# Altium schematic symbol library AshanSchLib.SchLib: 440 symbols (part 4 of 5)
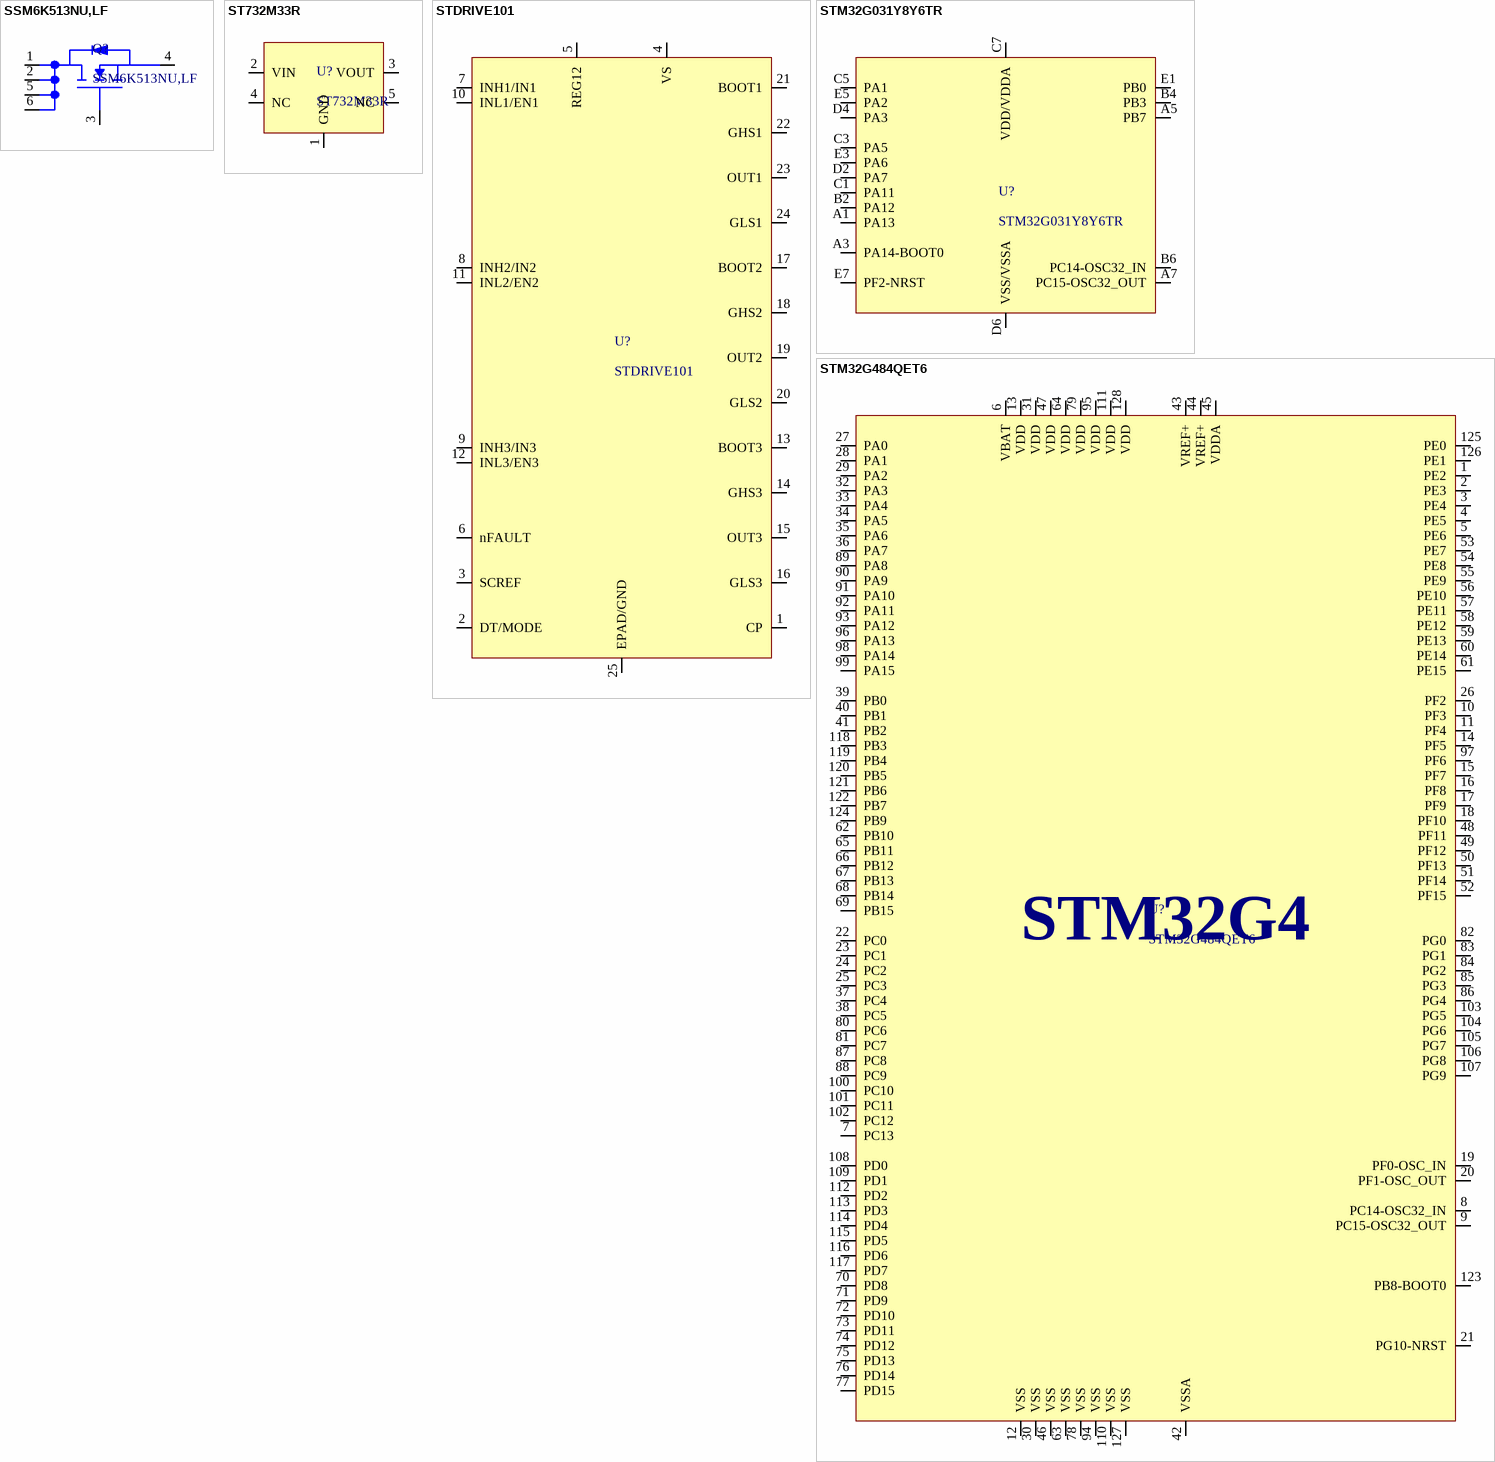
[diagram p32: symbols SSM6K513NU,LF to STM32G484QET6]

## STDRIVE101
designator U?
Gate Driver 3x Half-Bridge; Manufacturer: STMicroelectronics; Manufacturer Part Number: STDRIVE101
footprint VFQFPN24_4X4X1 (QFN, 24-Leads, Body 4,00x4,00mm, Pitch 0,50mm, Thermal Pad 2,50x2,50mm, IPC Medium Density)
pins: 1 CP, 2 DT/MODE, 3 SCREF, 4 VS, 5 REG12, 6 nFAULT, 7 INH1/IN1, 8 INH2/IN2, 9 INH3/IN3, 10 INL1/EN1, 11 INL2/EN2, 12 INL3/EN3, 13 BOOT3, 14 GHS3, 15 OUT3, 16 GLS3, 17 BOOT2, 18 GHS2, 19 OUT2, 20 GLS2, 21 BOOT1, 22 GHS1, 23 OUT1, 24 GLS1, 25 EPAD/GND

## STM32G031Y8Y6TR
designator U?
ARM Microcontrollers - MCU Mainstream Arm Cortex-M0+ MCU 64 Kbytes of Flash 8 Kbytes RAM, 64 MHz CPU STM32; Manufacturer: STMicroelectronics; Manufacturer Part Number: STM32G031Y8Y6TR
footprint WLCSP18
pins: A1 PA13, A3 PA14-BOOT0, A5 PB7, A7 PC15-OSC32_OUT, B2 PA12, B4 PB3, B6 PC14-OSC32_IN, C1 PA11, C3 PA5, C5 PA1, C7 VDD/VDDA (power), D2 PA7, D4 PA3, D6 VSS/VSSA (power), E1 PB0, E3 PA6, E5 PA2, E7 PF2-NRST

## STM32G484QET6
designator U?
STM32G4 Microcontroller LQFP-128 170 MHz 107 I/O; Manufacturer: STMicroelectronics; Manufacturer Part Number: STM32G484QET6
footprint LQFP-128 (CQFP, 128-Leads, Body 16,00x16,00mm, Pitch 0,40mm, IPC Medium Density)
pins: 1 PE2, 2 PE3, 3 PE4, 4 PE5, 5 PE6, 6 VBAT, 7 PC13, 8 PC14-OSC32_IN, 9 PC15-OSC32_OUT, 10 PF3, 11 PF4, 12 VSS, 13 VDD, 14 PF5, 15 PF7, 16 PF8, 17 PF9, 18 PF10, 19 PF0-OSC_IN, 20 PF1-OSC_OUT, 21 PG10-NRST, 22 PC0, 23 PC1, 24 PC2, 25 PC3, 26 PF2, 27 PA0, 28 PA1, 29 PA2, 30 VSS, 31 VDD, 32 PA3, 33 PA4, 34 PA5, 35 PA6, 36 PA7, 37 PC4, 38 PC5, 39 PB0, 40 PB1, 41 PB2, 42 VSSA, 43 VREF+, 44 VREF+, 45 VDDA, 46 VSS, 47 VDD, 48 PF11, 49 PF12, 50 PF13, 51 PF14, 52 PF15, 53 PE7, 54 PE8, 55 PE9, 56 PE10, 57 PE11, 58 PE12, 59 PE13, 60 PE14, 61 PE15, 62 PB10, 63 VSS, 64 VDD, 65 PB11, 66 PB12, 67 PB13, 68 PB14, 69 PB15, 70 PD8, 71 PD9, 72 PD10, 73 PD11, 74 PD12, 75 PD13, 76 PD14, 77 PD15, 78 VSS, 79 VDD, 80 PC6, 81 PC7, 82 PG0, 83 PG1, 84 PG2, 85 PG3, 86 PG4, 87 PC8, 88 PC9, 89 PA8, 90 PA9, 91 PA10, 92 PA11, 93 PA12, 94 VSS, 95 VDD, 96 PA13, 97 PF6, 98 PA14, 99 PA15, 100 PC10, 101 PC11, 102 PC12, 103 PG5, 104 PG6, 105 PG7, 106 PG8, 107 PG9, 108 PD0, 109 PD1, 110 VSS, 111 VDD, 112 PD2, 113 PD3, 114 PD4, 115 PD5, 116 PD6, 117 PD7, 118 PB3, 119 PB4, 120 PB5, 121 PB6, 122 PB7, 123 PB8-BOOT0, 124 PB9, 125 PE0, 126 PE1, 127 VSS, 128 VDD
text: STM32G4

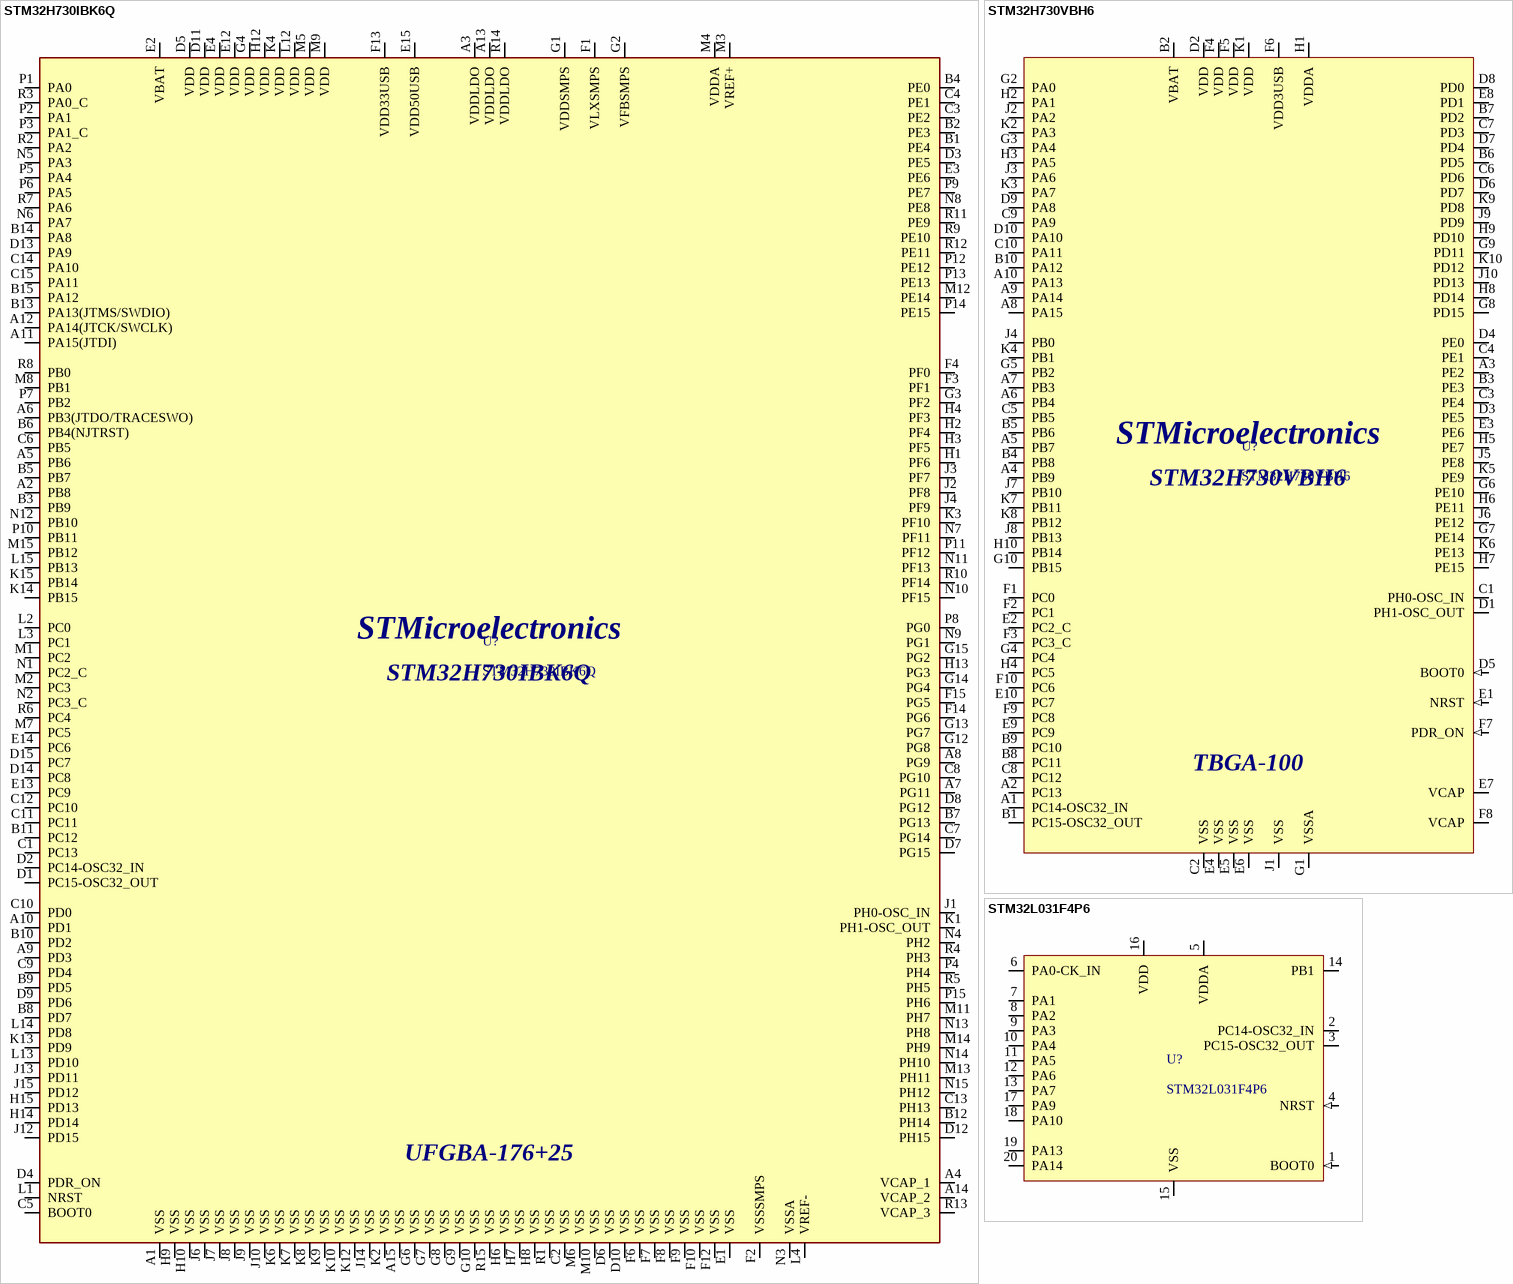
[diagram p21: symbols STM32H730IBK6Q to STM32L031F4P6]

## STM32H730IBK6Q
designator U?
Arm® Cortex®-M7 32b 550 MHz MCU, 128 KB Flash, 564 KB RAM, Ethernet, USB, 3xFD-CAN, Graphics, 2x16b ADCs, crypto/hash, UFBGA-176+25 (10x10); Manufacturer: STMicroelectronics; Manufacturer Part Number: STM32H730IBK6Q
footprint UFBGA176+25
pins: A1 VSS, A2 PB8, A3 VDDLDO, A4 VCAP_1, A5 PB6, A6 PB3(JTDO/TRACESWO), A7 PG11, A8 PG9, A9 PD3, A10 PD1, A11 PA15(JTDI), A12 PA14(JTCK/SWCLK), A13 VDDLDO, A14 VCAP_2, A15 VSS, B1 PE4, B2 PE3, B3 PB9, B4 PE0, B5 PB7, B6 PB4(NJTRST), B7 PG13, B8 PD7, B9 PD5, B10 PD2, B11 PC12, B12 PH14, B13 PA13(JTMS/SWDIO), B14 PA8, B15 PA12, C1 PC13, C2 VSS, C3 PE2, C4 PE1, C5 BOOT0, C6 PB5, C7 PG14, C8 PG10, C9 PD4, C10 PD0, C11 PC11, C12 PC10, C13 PH13, C14 PA10, C15 PA11, D1 PC15-OSC32_OUT, D2 PC14-OSC32_IN, D3 PE5, D4 PDR_ON, D5 VDD, D6 VSS, D7 PG15, D8 PG12, D9 PD6, D10 VSS, D11 VDD, D12 PH15, D13 PA9, D14 PC8, D15 PC7, E1 VSS, E2 VBAT, E3 PE6, E4 VDD, E12 VDD, E13 PC9, E14 PC6, E15 VDD50USB, F1 VLXSMPS, F2 VSSSMPS, F3 PF1, F4 PF0, F6 VSS, F7 VSS, F8 VSS, F9 VSS, F10 VSS, F12 VSS, F13 VDD33USB, F14 PG6, F15 PG5, G1 VDDSMPS, G2 VFBSMPS, G3 PF2, G4 VDD, G6 VSS, G7 VSS, G8 VSS, G9 VSS, G10 VSS, G12 PG8, G13 PG7, G14 PG4, G15 PG2, H1 PF6, H2 PF4, H3 PF5, H4 PF3, H6 VSS, H7 VSS, H8 VSS, H9 VSS, H10 VSS, H12 VDD, H13 PG3, H14 PD14, H15 PD13, J1 PH0-OSC_IN, J2 PF8, J3 PF7, J4 PF9, J6 VSS, J7 VSS, J8 VSS, J9 VSS, J10 VSS, J12 PD15, J13 PD11, J14 VSS, J15 PD12, K1 PH1-OSC_OUT, K2 VSS, K3 PF10, K4 VDD, K6 VSS, K7 VSS, K8 VSS, K9 VSS, K10 VSS, K12 VSS, K13 PD9, K14 PB15, K15 PB14, L1 NRST, L2 PC0, L3 PC1, L4 VREF-, L12 VDD, L13 PD10, L14 PD8, L15 PB13, M1 PC2, M2 PC3, M3 VREF+, M4 VDDA, M5 VDD, M6 VSS, M7 PC5, M8 PB1, M9 VDD, M10 VSS, M11 PH7, M12 PE14, M13 PH11, M14 PH9, M15 PB12, N1 PC2_C, N2 PC3_C, N3 VSSA, N4 PH2, N5 PA3, N6 PA7, N7 PF11, N8 PE8, N9 PG1, N10 PF15, N11 PF13, N12 PB10, N13 PH8, N14 PH10, N15 PH12, P1 PA0, P2 PA1, P3 PA1_C, P4 PH4, P5 PA4, P6 PA5, P7 PB2, P8 PG0, P9 PE7, P10 PB11, P11 PF12, P12 PE12, P13 PE13, P14 PE15, P15 PH6, R1 VSS, R2 PA2, R3 PA0_C, R4 PH3, R5 PH5, R6 PC4, R7 PA6, R8 PB0, R9 PE10, R10 PF14, R11 PE9, R12 PE11, R13 VCAP_3, R14 VDDLDO, R15 VSS
text: UFGBA-176+25

## STM32H730VBH6
designator U?
32-bit Arm® Cortex®-M7 550 MHz MCU, 128 KB Flash, 564 KB RAM, 35 comms peripherals and analog interfaces, TFBGA-100; Manufacturer: STMicroelectronics; Manufacturer Part Number: STM32H730VBH6
pins: A1 PC14-OSC32_IN (io), A2 PC13 (io), A3 PE2 (io), A4 PB9 (io), A5 PB7 (io), A6 PB4 (io), A7 PB3 (io), A8 PA15 (io), A9 PA14 (io), A10 PA13 (io), B1 PC15-OSC32_OUT (io), B2 VBAT (power), B3 PE3 (io), B4 PB8 (io), B5 PB6 (io), B6 PD5 (io), B7 PD2 (io), B8 PC11 (io), B9 PC10 (io), B10 PA12 (io), C1 PH0-OSC_IN (io), C2 VSS (power), C3 PE4 (io), C4 PE1 (io), C5 PB5 (io), C6 PD6 (io), C7 PD3 (io), C8 PC12 (io), C9 PA9 (io), C10 PA11 (io), D1 PH1-OSC_OUT (io), D2 VDD (power), D3 PE5 (io), D4 PE0 (io), D5 BOOT0 (in), D6 PD7 (io), D7 PD4 (io), D8 PD0 (io), D9 PA8 (io), D10 PA10 (io), E1 NRST (in), E2 PC2_C (io), E3 PE6 (io), E4 VSS (power), E5 VSS (power), E6 VSS (power), E7 VCAP (power), E8 PD1 (io), E9 PC9 (io), E10 PC7 (io), F1 PC0 (io), F2 PC1 (io), F3 PC3_C (io), F4 VDD (power), F5 VDD (power), F6 VDD3USB (power), F7 PDR_ON (in), F8 VCAP (power), F9 PC8 (io), F10 PC6 (io), G1 VSSA (power), G2 PA0 (io), G3 PA4 (io), G4 PC4 (io), G5 PB2 (io), G6 PE10 (io), G7 PE14 (io), G8 PD15 (io), G9 PD11 (io), G10 PB15 (io), H1 VDDA (power), H2 PA1 (io), H3 PA5 (io), H4 PC5 (io), H5 PE7 (io), H6 PE11 (io), H7 PE15 (io), H8 PD14 (io), H9 PD10 (io), H10 PB14 (io), J1 VSS (power), J2 PA2 (io), J3 PA6 (io), J4 PB0 (io), J5 PE8 (io), J6 PE12 (io), J7 PB10 (io), J8 PB13 (io), J9 PD9 (io), J10 PD13 (io), K1 VDD (power), K2 PA3 (io), K3 PA7 (io), K4 PB1 (io), K5 PE9 (io), K6 PE13 (io), K7 PB11 (io), K8 PB12 (io), K9 PD8 (io), K10 PD12 (io)
text: TBGA-100

## STM32L031F4P6
designator U?
Access line ultra-low-power 32-bit MCU Arm®-based / Cortex®-M0+, up to 32KB Flash, 8KB SRAM, 1KB EEPROM, ADC; Manufacturer: STMicroelectronics; Manufacturer Part Number: STM32L031F4P6
footprint TSSOP-20 (TSOP, 20-Leads, Body 6,50x4,40mm, Pitch 0,65mm, IPC Medium Density)
pins: 1 BOOT0 (in), 2 PC14-OSC32_IN, 3 PC15-OSC32_OUT, 4 NRST (in), 5 VDDA (power), 6 PA0-CK_IN, 7 PA1, 8 PA2, 9 PA3, 10 PA4, 11 PA5, 12 PA6, 13 PA7, 14 PB1, 15 VSS (power), 16 VDD (power), 17 PA9, 18 PA10, 19 PA13, 20 PA14

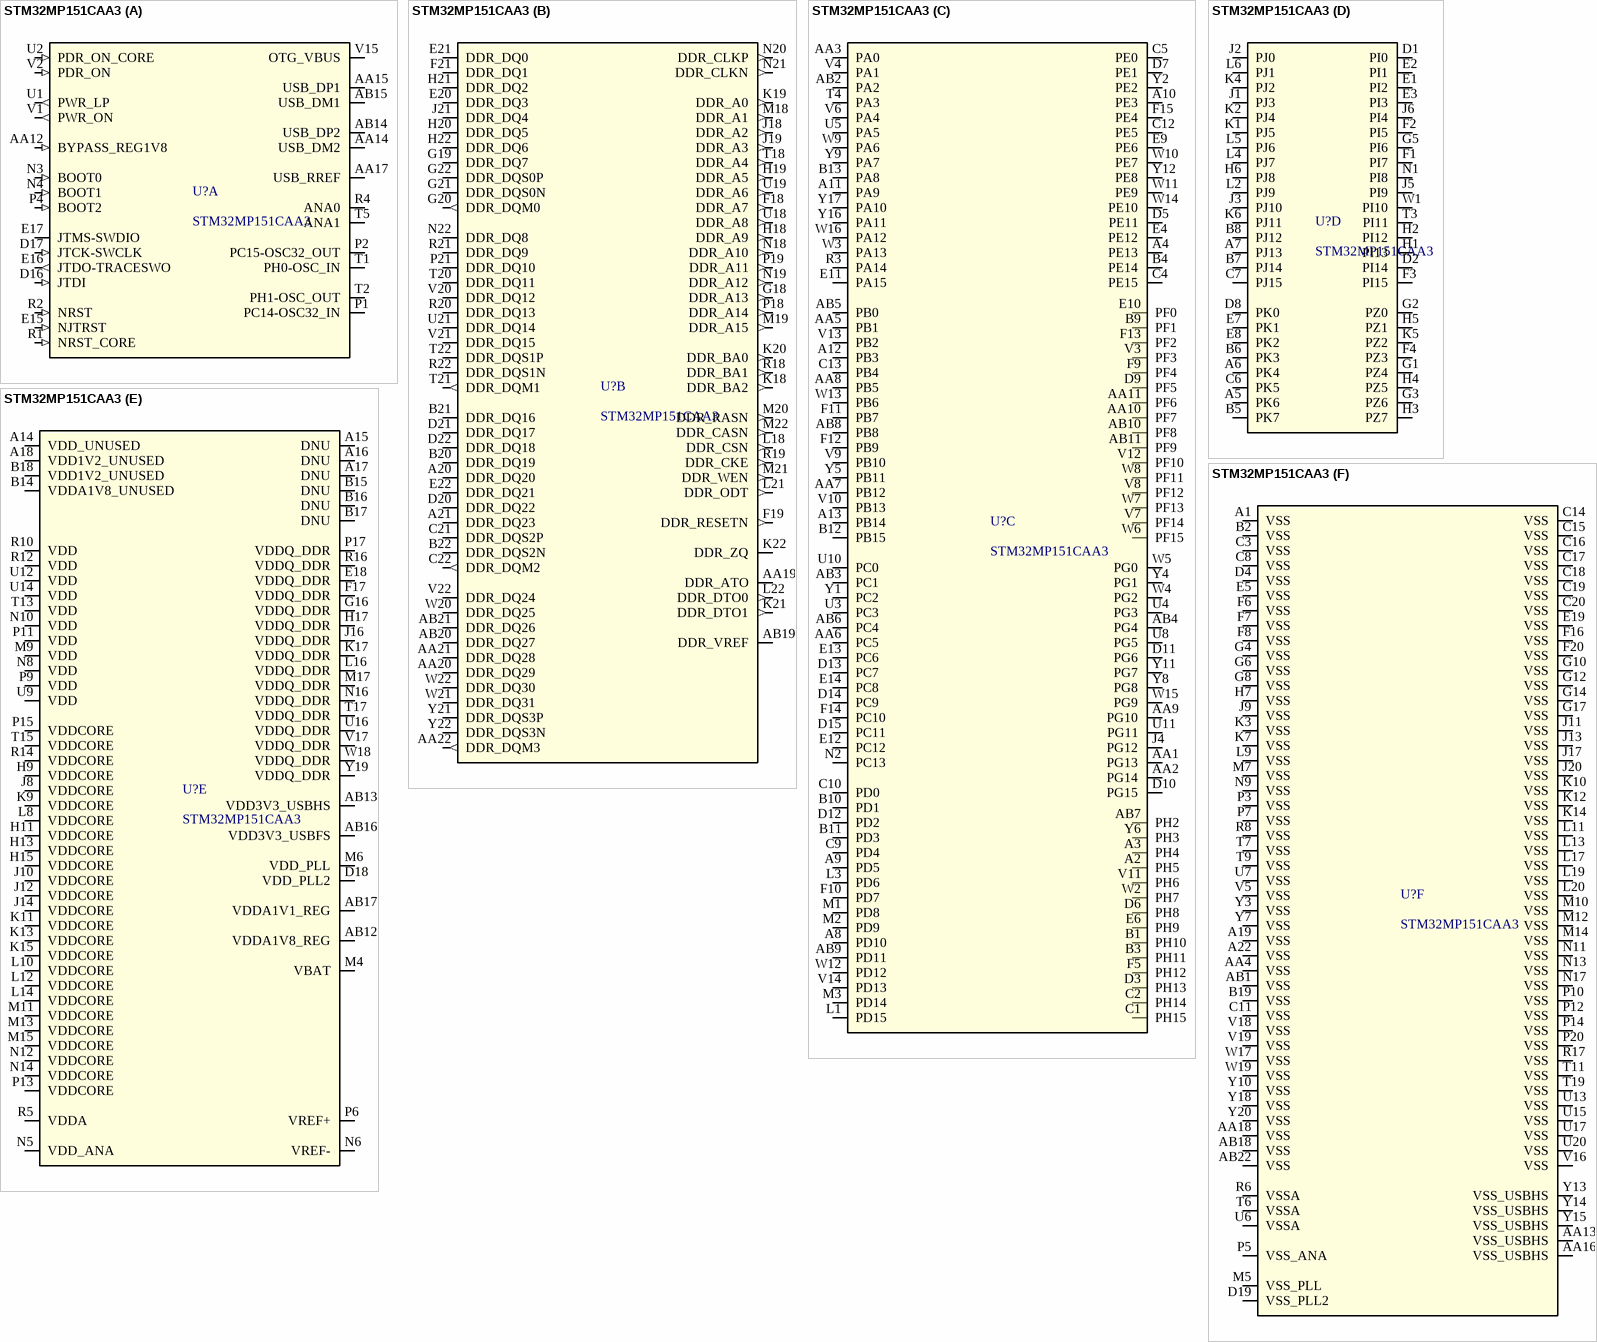
[diagram p22: symbol STM32MP151CAA3]

## STM32MP151CAA3
designator U?
MPU with Arm Cortex-A7 650 MHz, Arm Cortex-M4 real-time coprocessor, TFT display, Secure boot and Cryptography; Manufacturer: STMicroelectronics; Manufacturer Part Number: STM32MP151CAA3
footprint LFBGA448_18X18
footprint LFBGA-448 (BGA, 81-Leads, Body 18.00x18.00mmx1.32mm, Pitch 0.80mm)
part A pins: AA12 BYPASS_REG1V8 (in), AA14 USB_DM2, AA15 USB_DP1, AA17 USB_RREF, AB14 USB_DP2, AB15 USB_DM1, D16 JTDI (in), D17 JTCK-SWCLK (in), E15 NJTRST (in), E16 JTDO-TRACESWO (out), E17 JTMS-SWDIO (io), N3 BOOT0 (in), N4 BOOT1 (in), P1 PC14-OSC32_IN (io), P2 PC15-OSC32_OUT (io), P4 BOOT2 (in), R1 NRST_CORE (in), R2 NRST (in), R4 ANA0, T1 PH0-OSC_IN (io), T2 PH1-OSC_OUT (io), T5 ANA1, U1 PWR_LP (out), U2 PDR_ON_CORE (in), V1 PWR_ON (out), V2 PDR_ON (in), V15 OTG_VBUS
part B pins: A20 DDR_DQ20 (io), A21 DDR_DQ23 (io), AA19 DDR_ATO, AA20 DDR_DQ29 (io), AA21 DDR_DQ28 (io), AA22 DDR_DQM3 (out), AB19 DDR_VREF, AB20 DDR_DQ27 (io), AB21 DDR_DQ26 (io), B20 DDR_DQ19 (io), B21 DDR_DQ16 (io), B22 DDR_DQS2N (io), C21 DDR_DQS2P (io), C22 DDR_DQM2 (out), D20 DDR_DQ22 (io), D21 DDR_DQ17 (io), D22 DDR_DQ18 (io), E20 DDR_DQ3 (io), E21 DDR_DQ0 (io), E22 DDR_DQ21 (io), F18 DDR_A7 (out), F19 DDR_RESETN (out), F21 DDR_DQ1 (io), G18 DDR_A13 (out), G19 DDR_DQ7 (io), G20 DDR_DQM0 (out), G21 DDR_DQS0N (io), G22 DDR_DQS0P (io), H18 DDR_A9 (out), H19 DDR_A5 (out), H20 DDR_DQ5 (io), H21 DDR_DQ2 (io), H22 DDR_DQ6 (io), J18 DDR_A2 (out), J19 DDR_A3 (out), J21 DDR_DQ4 (io), K18 DDR_BA2 (out), K19 DDR_A0 (out), K20 DDR_BA0 (out), K21 DDR_DTO1 (out), K22 DDR_ZQ, L18 DDR_CSN (out), L21 DDR_ODT (out), L22 DDR_DTO0 (out), M18 DDR_A1 (out), M19 DDR_A15 (out), M20 DDR_RASN (out), M21 DDR_WEN (out), M22 DDR_CASN (out), N18 DDR_A10 (out), N19 DDR_A12 (out), N20 DDR_CLKP (out), N21 DDR_CLKN (out), N22 DDR_DQ8 (io), P18 DDR_A14 (out), P19 DDR_A11 (out), P21 DDR_DQ10 (io), R18 DDR_BA1 (out), R19 DDR_CKE (out), R20 DDR_DQ13 (io), R21 DDR_DQ9 (io), R22 DDR_DQS1N (io), T18 DDR_A4 (out), T20 DDR_DQ11 (io), T21 DDR_DQM1 (out), T22 DDR_DQS1P (io), U18 DDR_A8 (out), U19 DDR_A6 (out), U21 DDR_DQ14 (io), V20 DDR_DQ12 (io), V21 DDR_DQ15 (io), V22 DDR_DQ24 (io), W20 DDR_DQ25 (io), W21 DDR_DQ31 (io), W22 DDR_DQ30 (io), Y21 DDR_DQS3P (io), Y22 DDR_DQS3N (io)
part C pins: A2 PH5 (io), A3 PH4 (io), A4 PE13 (io), A8 PD10 (io), A9 PD5 (io), A10 PE3 (io), A11 PA9 (io), A12 PB3 (io), A13 PB14 (io), AA1 PG13 (io), AA2 PG14 (io), AA3 PA0 (io), AA5 PB1 (io), AA6 PC5 (io), AA7 PB12 (io), AA8 PB5 (io), AA9 PG10 (io), AA10 PF7 (io), AA11 PF6 (io), AB2 PA2 (io), AB3 PC1 (io), AB4 PG4 (io), AB5 PB0 (io), AB6 PC4 (io), AB7 PH2 (io), AB8 PB8 (io), AB9 PD11 (io), AB10 PF8 (io), AB11 PF9 (io), B1 PH10 (io), B3 PH11 (io), B4 PE14 (io), B9 PF1 (io), B10 PD1 (io), B11 PD3 (io), B12 PB15 (io), B13 PA8 (io), C1 PH15 (io), C2 PH14 (io), C4 PE15 (io), C5 PE0 (io), C9 PD4 (io), C10 PD0 (io), C12 PE5 (io), C13 PB4 (io), D3 PH13 (io), D5 PE11 (io), D6 PH8 (io), D7 PE1 (io), D9 PF5 (io), D10 PG15 (io), D11 PG6 (io), D12 PD2 (io), D13 PC7 (io), D14 PC9 (io), D15 PC11 (io), E4 PE12 (io), E6 PH9 (io), E9 PE6 (io), E10 PF0 (io), E11 PA15 (io), E12 PC12 (io), E13 PC6 (io), E14 PC8 (io), F5 PH12 (io), F9 PF4 (io), F10 PD7 (io), F11 PB7 (io), F12 PB9 (io), F13 PF2 (io), F14 PC10 (io), F15 PE4 (io), J4 PG12 (io), L1 PD15 (io), L3 PD6 (io), M1 PD8 (io), M2 PD9 (io), M3 PD14 (io), N2 PC13 (io), R3 PA14 (io), T4 PA3 (io), U3 PC3 (io), U4 PG3 (io), U5 PA5 (io), U8 PG5 (io), U10 PC0 (io), U11 PG11 (io), V3 PF3 (io), V4 PA1 (io), V6 PA4 (io), V7 PF14 (io), V8 PF12 (io), V9 PB10 (io), V10 PB13 (io), V11 PH6 (io), V12 PF10 (io), V13 PB2 (io), V14 PD13 (io), W2 PH7 (io), W3 PA13 (io), W4 PG2 (io), W5 PG0 (io), W6 PF15 (io), W7 PF13 (io), W8 PF11 (io), W9 PA6 (io), W10 PE7 (io), W11 PE9 (io), W12 PD12 (io), W13 PB6 (io), W14 PE10 (io), W15 PG9 (io), W16 PA12 (io), Y1 PC2 (io), Y2 PE2 (io), Y4 PG1 (io), Y5 PB11 (io), Y6 PH3 (io), Y8 PG8 (io), Y9 PA7 (io), Y11 PG7 (io), Y12 PE8 (io), Y16 PA11 (io), Y17 PA10 (io)
part D pins: A5 PK6 (io), A6 PK4 (io), A7 PJ13 (io), B5 PK7 (io), B6 PK3 (io), B7 PJ14 (io), B8 PJ12 (io), C6 PK5 (io), C7 PJ15 (io), D1 PI0 (io), D2 PI14 (io), D8 PK0 (io), E1 PI2 (io), E2 PI1 (io), E3 PI3 (io), E7 PK1 (io), E8 PK2 (io), F1 PI7 (io), F2 PI5 (io), F3 PI15 (io), F4 PZ3 (io), G1 PZ4 (io), G2 PZ0 (io), G3 PZ6 (io), G5 PI6 (io), H1 PI13 (io), H2 PI12 (io), H3 PZ7 (io), H4 PZ5 (io), H5 PZ1 (io), H6 PJ8 (io), J1 PJ3 (io), J2 PJ0 (io), J3 PJ10 (io), J5 PI9 (io), J6 PI4 (io), K1 PJ5 (io), K2 PJ4 (io), K4 PJ2 (io), K5 PZ2 (io), K6 PJ11 (io), L2 PJ9 (io), L4 PJ7 (io), L5 PJ6 (io), L6 PJ1 (io), N1 PI8 (io), T3 PI11 (io), W1 PI10 (io)
part E pins: A14 VDD_UNUSED (power), A15 DNU, A16 DNU, A17 DNU, A18 VDD1V2_UNUSED (power), AB12 VDDA1V8_REG (power), AB13 VDD3V3_USBHS (power), AB16 VDD3V3_USBFS (power), AB17 VDDA1V1_REG (power), B14 VDDA1V8_UNUSED (power), B15 DNU, B16 DNU, B17 DNU, B18 VDD1V2_UNUSED (power), D18 VDD_PLL2 (power), E18 VDDQ_DDR (power), F17 VDDQ_DDR (power), G16 VDDQ_DDR (power), H9 VDDCORE (power), H11 VDDCORE (power), H13 VDDCORE (power), H15 VDDCORE (power), H17 VDDQ_DDR (power), J8 VDDCORE (power), J10 VDDCORE (power), J12 VDDCORE (power), J14 VDDCORE (power), J16 VDDQ_DDR (power), K9 VDDCORE (power), K11 VDDCORE (power), K13 VDDCORE (power), K15 VDDCORE (power), K17 VDDQ_DDR (power), L8 VDDCORE (power), L10 VDDCORE (power), L12 VDDCORE (power), L14 VDDCORE (power), L16 VDDQ_DDR (power), M4 VBAT (power), M6 VDD_PLL (power), M9 VDD (power), M11 VDDCORE (power), M13 VDDCORE (power), M15 VDDCORE (power), M17 VDDQ_DDR (power), N5 VDD_ANA (power), N6 VREF- (power), N8 VDD (power), N10 VDD (power), N12 VDDCORE (power), N14 VDDCORE (power), N16 VDDQ_DDR (power), P6 VREF+ (power), P9 VDD (power), P11 VDD (power), P13 VDDCORE (power), P15 VDDCORE (power), P17 VDDQ_DDR (power), R5 VDDA (power), R10 VDD (power), R12 VDD (power), R14 VDDCORE (power), R16 VDDQ_DDR (power), T13 VDD (power), T15 VDDCORE (power), T17 VDDQ_DDR (power), U9 VDD (power), U12 VDD (power), U14 VDD (power), U16 VDDQ_DDR (power), V17 VDDQ_DDR (power), W18 VDDQ_DDR (power), Y19 VDDQ_DDR (power)
part F pins: A1 VSS (power), A19 VSS (power), A22 VSS (power), AA4 VSS (power), AA13 VSS_USBHS (power), AA16 VSS_USBHS (power), AA18 VSS (power), AB1 VSS (power), AB18 VSS (power), AB22 VSS (power), B2 VSS (power), B19 VSS (power), C3 VSS (power), C8 VSS (power), C11 VSS (power), C14 VSS (power), C15 VSS (power), C16 VSS (power), C17 VSS (power), C18 VSS (power), C19 VSS (power), C20 VSS (power), D4 VSS (power), D19 VSS_PLL2 (power), E5 VSS (power), E19 VSS (power), F6 VSS (power), F7 VSS (power), F8 VSS (power), F16 VSS (power), F20 VSS (power), G4 VSS (power), G6 VSS (power), G8 VSS (power), G10 VSS (power), G12 VSS (power), G14 VSS (power), G17 VSS (power), H7 VSS (power), J9 VSS (power), J11 VSS (power), J13 VSS (power), J17 VSS (power), J20 VSS (power), K3 VSS (power), K7 VSS (power), K10 VSS (power), K12 VSS (power), K14 VSS (power), L9 VSS (power), L11 VSS (power), L13 VSS (power), L17 VSS (power), L19 VSS (power), L20 VSS (power), M5 VSS_PLL (power), M7 VSS (power), M10 VSS (power), M12 VSS (power), M14 VSS (power), N9 VSS (power), N11 VSS (power), N13 VSS (power), N17 VSS (power), P3 VSS (power), P5 VSS_ANA (power), P7 VSS (power), P10 VSS (power), P12 VSS (power), P14 VSS (power), P20 VSS (power), R6 VSSA (power), R8 VSS (power), R17 VSS (power), T6 VSSA (power), T7 VSS (power), T9 VSS (power), T11 VSS (power), T19 VSS (power), U6 VSSA (power), U7 VSS (power), U13 VSS (power), U15 VSS (power), U17 VSS (power), U20 VSS (power), V5 VSS (power), V16 VSS (power), V18 VSS (power), V19 VSS (power), W17 VSS (power), W19 VSS (power), Y3 VSS (power), Y7 VSS (power), Y10 VSS (power), Y13 VSS_USBHS (power), Y14 VSS_USBHS (power), Y15 VSS_USBHS (power), Y18 VSS (power), Y20 VSS (power)

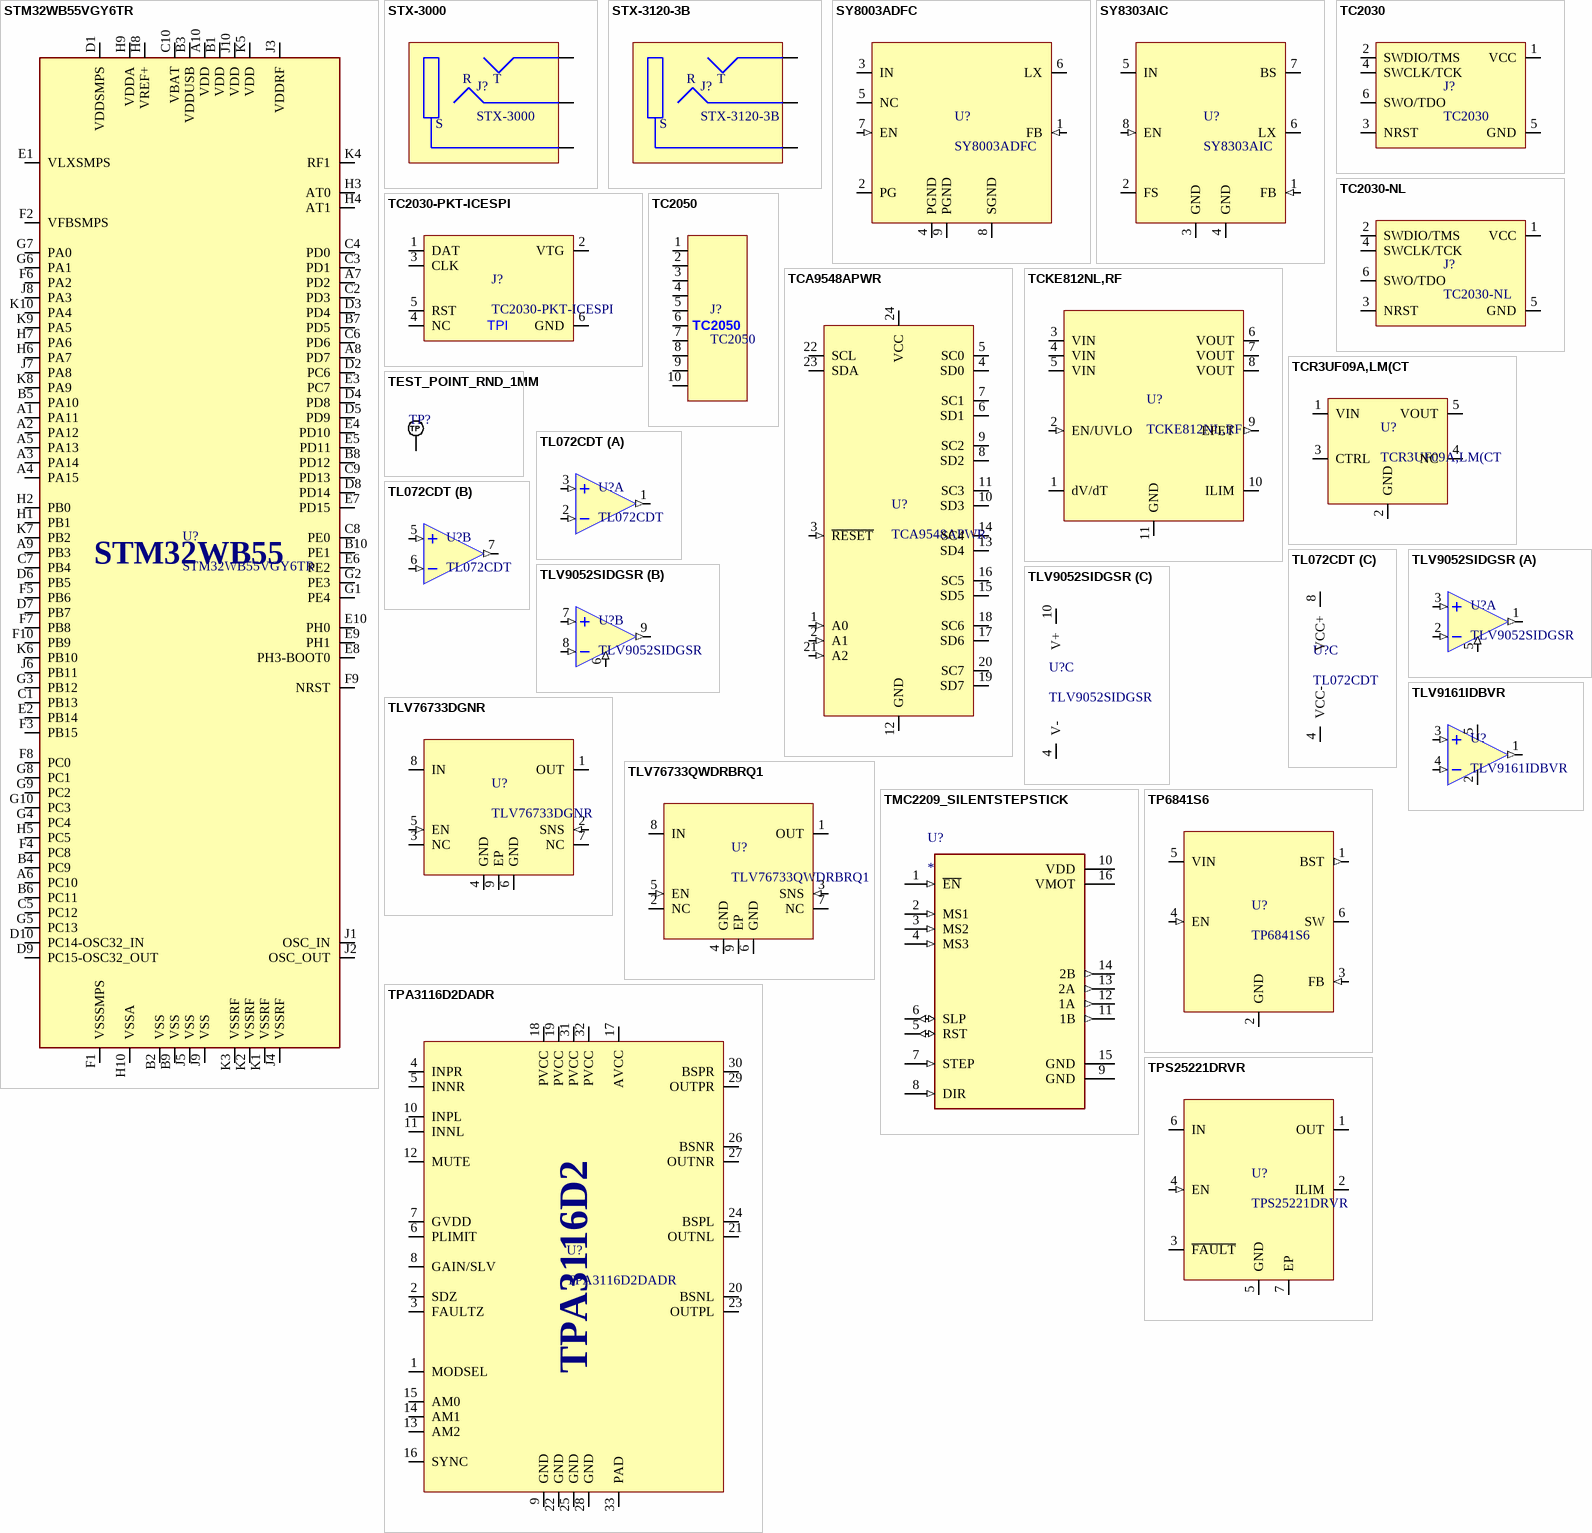
[diagram p23: symbols STM32WB55VGY6TR to TPS25221DRVR]

## STM32WB55VGY6TR
designator U?
Ultra-low-power dual core Arm Cortex-M0+ MCU; Manufacturer: STMicroelectronics; Manufacturer Part Number: STM32WB55VGY6TR; Distributor Link: https://eu.mouser.com/ProductDetail/STMicroelectronics/STM32WB55VGY6TR?qs=lYGu3FyN48e4iwYOkj%252BV4w%3D%3D; LCSC: C1850399
footprint WLCSP-100
pins: A1 PA11, A2 PA12, A3 PA14, A4 PA15, A5 PA13, A6 PC10, A7 PD2, A8 PD7, A9 PB3, A10 VDD, B1 VDD, B2 VSS, B3 VDDUSB, B4 PC9, B5 PA10, B6 PC11, B7 PD5, B8 PD12, B9 VSS, B10 PE1, C1 PB13, C2 PD3, C3 PD1, C4 PD0, C5 PC12, C6 PD6, C7 PB4, C8 PE0, C9 PD13, C10 VBAT, D1 VDDSMPS, D2 PC6, D3 PD4, D4 PD8, D5 PD9, D6 PB5, D7 PB7, D8 PD14, D9 PC15-OSC32_OUT, D10 PC14-OSC32_IN, E1 VLXSMPS, E2 PB14, E3 PC7, E4 PD10, E5 PD11, E6 PE2, E7 PD15, E8 PH3-BOOT0, E9 PH1, E10 PH0, F1 VSSSMPS, F2 VFBSMPS, F3 PB15, F4 PC8, F5 PB6, F6 PA2, F7 PB8, F8 PC0, F9 NRST, F10 PB9, G1 PE4, G2 PE3, G3 PB12, G4 PC4, G5 PC13, G6 PA1, G7 PA0, G8 PC1, G9 PC2, G10 PC3, H1 PB1, H2 PB0, H3 AT0, H4 AT1, H5 PC5, H6 PA7, H7 PA6, H8 VREF+, H9 VDDA, H10 VSSA, J1 OSC_IN, J2 OSC_OUT, J3 VDDRF, J4 VSSRF, J5 VSS, J6 PB11, J7 PA8, J8 PA3, J9 VSS, J10 VDD, K1 VSSRF, K2 VSSRF, K3 VSSRF, K4 RF1, K5 VDD, K6 PB10, K7 PB2, K8 PA9, K9 PA5, K10 PA4
text: STM32WB55

## STX-3000
designator J?
1/8" 3.5mm TRS Stereo Jack; Manufacturer: Kycon; Manufacturer Part Number: STX-3000; Distributor Link: https://www.mouser.de/ProductDetail/Kycon/STX-3000?qs=kjZ2mQLP346Nbz1X9BOzfg%3D%3D
footprint STX-3000
pins: R, S, T

## STX-3120-3B
designator J?
1/8" Stereo Jack TRS; Manufacturer: Kycon; Manufacturer Part Number: STX-3120-3B; Distributor Link: https://www.mouser.de/ProductDetail/Kycon/STX-3120-3B?qs=tDp7Of2cGGh%2F4wBu%2F49%2FMQ%3D%3D
footprint STX-3120-3B
pins: R, S, T

## SY8003ADFC
designator U?
High Efficiency 5.5V, 3A Continuous, 1MHz Synchronous Step Down Regulator; Manufacturer: Silergy; Manufacturer Part Number: High Efficiency 5.5V, 3A continuous, 1MHz; LCSC: C178236
footprint DFN2x2-8
pins: 1 FB (in), 2 PG (oc), 3 IN (power), 4 PGND (power), 5 NC, 6 LX (power), 7 EN (in), 8 SGND (power), 9 PGND (power)

## SY8303AIC
designator U?
High Efficiency Fast Response, 3A, 40V Input Synchronous Step Down Regulator; Manufacturer: Silergy; Manufacturer Part Number: SY8303AIC; Distributor Link: https://www.lcsc.com/product-detail/DC-DC-Converters_Silergy-Corp-SY8303AIC_C97054.html; LCSC: C97054
footprint TSOT23-8
pins: 1 FB (in), 2 FS, 3 GND (power), 4 GND (power), 5 IN (power), 6 LX (power), 7 BS (power), 8 EN (in)

## TC2030
designator J?  (no BOM)
Tag-Connect No-Solder SWD Debug Connector DO NOT PLACE; Manufacturer: Tag-Connect; Manufacturer Part Number: TC2030
footprint TC2030-FP
pins: 1 VCC, 2 SWDIO/TMS, 3 NRST, 4 SWCLK/TCK, 5 GND, 6 SWO/TDO

## TC2030-NL
designator J?  (no BOM)
Tag-Connect No-Solder SWD Debug Connector (No Legs) DO NOT PLACE; Manufacturer Part Number: TC2030-NL-FP; Manufacturer: Tag-Connect
footprint TC2030-NL-FP
pins: 1 VCC, 2 SWDIO/TMS, 3 NRST, 4 SWCLK/TCK, 5 GND, 6 SWO/TDO

## TC2030-PKT-ICESPI
designator J?  (no BOM)
Tag-Connect No-Solder ICESPI Debug Connector DO NOT PLACE; Manufacturer: Tag-Connect; Manufacturer Part Number: TC2030-PKT-ICESPI
footprint TC2030-FP
pins: 1 DAT, 2 VTG, 3 CLK, 4 NC, 5 RST, 6 GND
text: TPI

## TC2050
designator J?  (no BOM)
Tag-Connect No-Solder SWD Debug Connector DO NOT PLACE; Manufacturer: Tag-Connect; Manufacturer Part Number: TC2050
footprint TC2050-FP
pins: 1, 2, 3, 4, 5, 6, 7, 8, 9, 10

## TCA9548APWR
designator U?
Low-Voltage 8-Channel I2C Switch with Reset; Manufacturer Part Number: Texas Instruments; Manufacturer: TCA9548APWR; Distributor Link: https://www.mouser.de/ProductDetail/Texas-Instruments/TCA9548APWR?qs=iFaFN7AS2WF%252BqSiJMbdYwQ%3D%3D; LCSC: C130026
footprint TSSOP-24
pins: 1 A0 (in), 2 A1 (in), 3 ~{RESET} (in), 4 SD0 (io), 5 SC0 (io), 6 SD1 (io), 7 SC1 (io), 8 SD2 (io), 9 SC2 (io), 10 SD3 (io), 11 SC3 (io), 12 GND (power), 13 SD4 (io), 14 SC4 (io), 15 SD5 (io), 16 SC5 (io), 17 SD6 (io), 18 SC6 (io), 19 SD7 (io), 20 SC7 (io), 21 A2 (in), 22 SCL (io), 23 SDA (io), 24 VCC (power)

## TCKE812NL,RF
designator U?
18 V, 5A eFuse IC with Adjustable Overcurrent Protection and Reverse Current Blocking FET Control; Manufacturer: Toshiba; Manufacturer Part Number: TCKE812NL,RF; Distributor Link: https://www.mouser.de/ProductDetail/Toshiba/TCKE812NLRF?qs=7MVldsJ5UazTx6Kotth2TA%3D%3D; LCSC: C6716887
footprint WSON-10B
pins: 1 dV/dT, 2 EN/UVLO (in), 3 VIN (power), 4 VIN (power), 5 VIN (power), 6 VOUT (power), 7 VOUT (power), 8 VOUT (power), 9 EFET (out), 10 ILIM, 11 GND (power)

## TCR3UF09A,LM(CT
designator U?
LDO 900mV 300mA SOT-25-5; Manufacturer: Toshiba; Manufacturer Part Number: TCR3UF09A,LM(CT
footprint SSOP5
pins: 1 VIN, 2 GND, 3 CTRL, 4 NC, 5 VOUT

## TEST_POINT_RND_1MM
designator TP?, comment TP_NOBOM  (value not drawn)  (no BOM)
Test Point Round 1mm (NO BOM)
footprint PAD_RND_1MM
pins: 1 TP

## TL072CDT
designator U?
Dual JFET Low-Noise Operational Amplifiers; Manufacturer: STMicroelectronics; Manufacturer Part Number: TL072CDT
footprint SOIC-8 (SOIC, 8-Leads, Body 4.91x3.90mm, Pitch 1.27mm, IPC Medium Density)
part A pins: 1 1OUT (out), 2 1IN- (in), 3 1IN+ (in)
part B pins: 5 2IN+ (in), 6 2IN- (in), 7 2OUT (out)
part C pins: 4 VCC-, 8 VCC+

## TLV9052SIDGSR
designator U?
Dual Rail-to-Rail I/O Operational Amplifier CMOS MSOP-10; Manufacturer: Texas Instruments; Manufacturer Part Number: TLV9052SIDGSR
footprint MSOP-10
part A pins: 1 OUT1 (out), 2 IN1- (in), 3 IN1+ (in), 5 ~{SHDN1} (in)
part B pins: 6 ~{SHDN6} (in), 7 IN2+ (in), 8 IN2- (in), 9 OUT2 (out)
part C pins: 4 V- (power), 10 V+ (power)

## TLV9161IDBVR
designator U?
TLV916x 16-V, 11-MHz, Rail-to-Rail Input/Output, Low Offset Voltage, Low Noise Op Amp SOT-23-5; Manufacturer: Texas Instruments; Manufacturer Part Number: TLV9161IDBVR
footprint SOT-23-5 (SOT23, 5-Leads, Body 2,90x2,80mm, Pitch 0,95mm, IPC Medium Density)
pins: 1 OUT (out), 2 V-, 3 IN+ (in), 4 IN- (in), 5 V+

## TLV76733DGNR
designator U?
1A 3V3 LDO Regulator HVSSOP-8; Manufacturer: Texas Instruments; Manufacturer Part Number: TLV76733DGNR; Distributor Link: https://www.mouser.de/ProductDetail/Texas-Instruments/TLV76733DGNR?qs=sGAEpiMZZMug9GoBKXZ751mAF56Mq1BpE6IEorDiG8zdSVWisnEjQA%3D%3D
footprint HVSSOP-8
pins: 1 OUT (power), 2 SNS (in), 3 NC, 4 GND (power), 5 EN (in), 6 GND (power), 7 NC, 8 IN (power), 9 EP (power)

## TLV76733QWDRBRQ1
designator U?
1A 3V3 LDO Regulator WSON-8; Manufacturer: Texas Instruments; Manufacturer Part Number: TLV76733QWDRBRQ1
footprint WSON-8-3x3-0.65 (SON, 8-Leads, Body 3.00x3.00mm, Pitch 0.65mm, Thermal Pad 2.33x1.49mm, IPC Medium Density)
pins: 1 OUT (power), 2 NC, 3 SNS (in), 4 GND (power), 5 EN (in), 6 GND (power), 7 NC, 8 IN (power), 9 EP (power)

## TMC2209_SILENTSTEPSTICK
designator U?
TMC2209 Motor Controller/Driver Power Management Evaluation Board; MF: Trinamic Motion Control GmbH; MP: TMC2209 SILENTSTEPSTICK; SnapEDA_Link: https://www.snapeda.com/parts/TMC2209%20SILENTSTEPSTICK/Trinamic/view-part/?ref=snap; Package: None; Value: *; Check_prices: https://www.snapeda.com/parts/TMC2209%20SILENTSTEPSTICK/Trinamic/view-part/?ref=eda
footprint TMC2209_SILENTSTEPSTICK
pins: 1 ~{EN} (in), 2 MS1 (in), 3 MS2 (in), 4 MS3 (in), 5 RST (io), 6 SLP (io), 7 STEP (in), 8 DIR (in), 9 GND (power), 10 VDD (power), 11 1B (out), 12 1A (out), 13 2A (out), 14 2B (out), 15 GND (power), 16 VMOT (power)

## TP6841S6
designator U?
40V 0.8A 800kHz Synchronous Step-Down Converter; Manufacturer: TECH PUBLIC; Manufacturer Part Number: TP6841S6
footprint SOT-23-6
pins: 1 BST (out), 2 GND (power), 3 FB (in), 4 EN (in), 5 VIN (power), 6 SW (power)

## TPA3116D2DADR
designator U?
50-W Filter-Free Class-D Stereo Amplifier With AM / Avoidance; Manufacturer: Texas Instruments; Manufacturer Part Number: TPA3116D2DADR
footprint TSSOP32-DAD (TSOP, 32-Leads, Body 11.00x6.10mm, Pitch 0.65mm, IPC Medium Density)
pins: 1 MODSEL, 2 SDZ, 3 FAULTZ, 4 INPR, 5 INNR, 6 PLIMIT, 7 GVDD, 8 GAIN/SLV, 9 GND, 10 INPL, 11 INNL, 12 MUTE, 13 AM2, 14 AM1, 15 AM0, 16 SYNC, 17 AVCC, 18 PVCC, 19 PVCC, 20 BSNL, 21 OUTNL, 22 GND, 23 OUTPL, 24 BSPL, 25 GND, 26 BSNR, 27 OUTNR, 28 GND, 29 OUTPR, 30 BSPR, 31 PVCC, 32 PVCC, 33 PAD
text: TPA3116D2

## TPS25221DRVR
designator U?
2.5-V to 5.5-V, 2-A Continuous Current Limited Switch; Manufacturer: Texas Instruments; Manufacturer Part Number: TPS25221DRVR; Distributor Link: https://www.mouser.de/ProductDetail/Texas-Instruments/TPS25221DRVR?qs=y6ZabgHbY%252BwMfKdJX5xA9w%3D%3D; LCSC: C2872281
footprint WSON-6
pins: 1 OUT (power), 2 ILIM, 3 ~{FAULT} (oc), 4 EN (in), 5 GND (power), 6 IN (power), 7 EP (power)

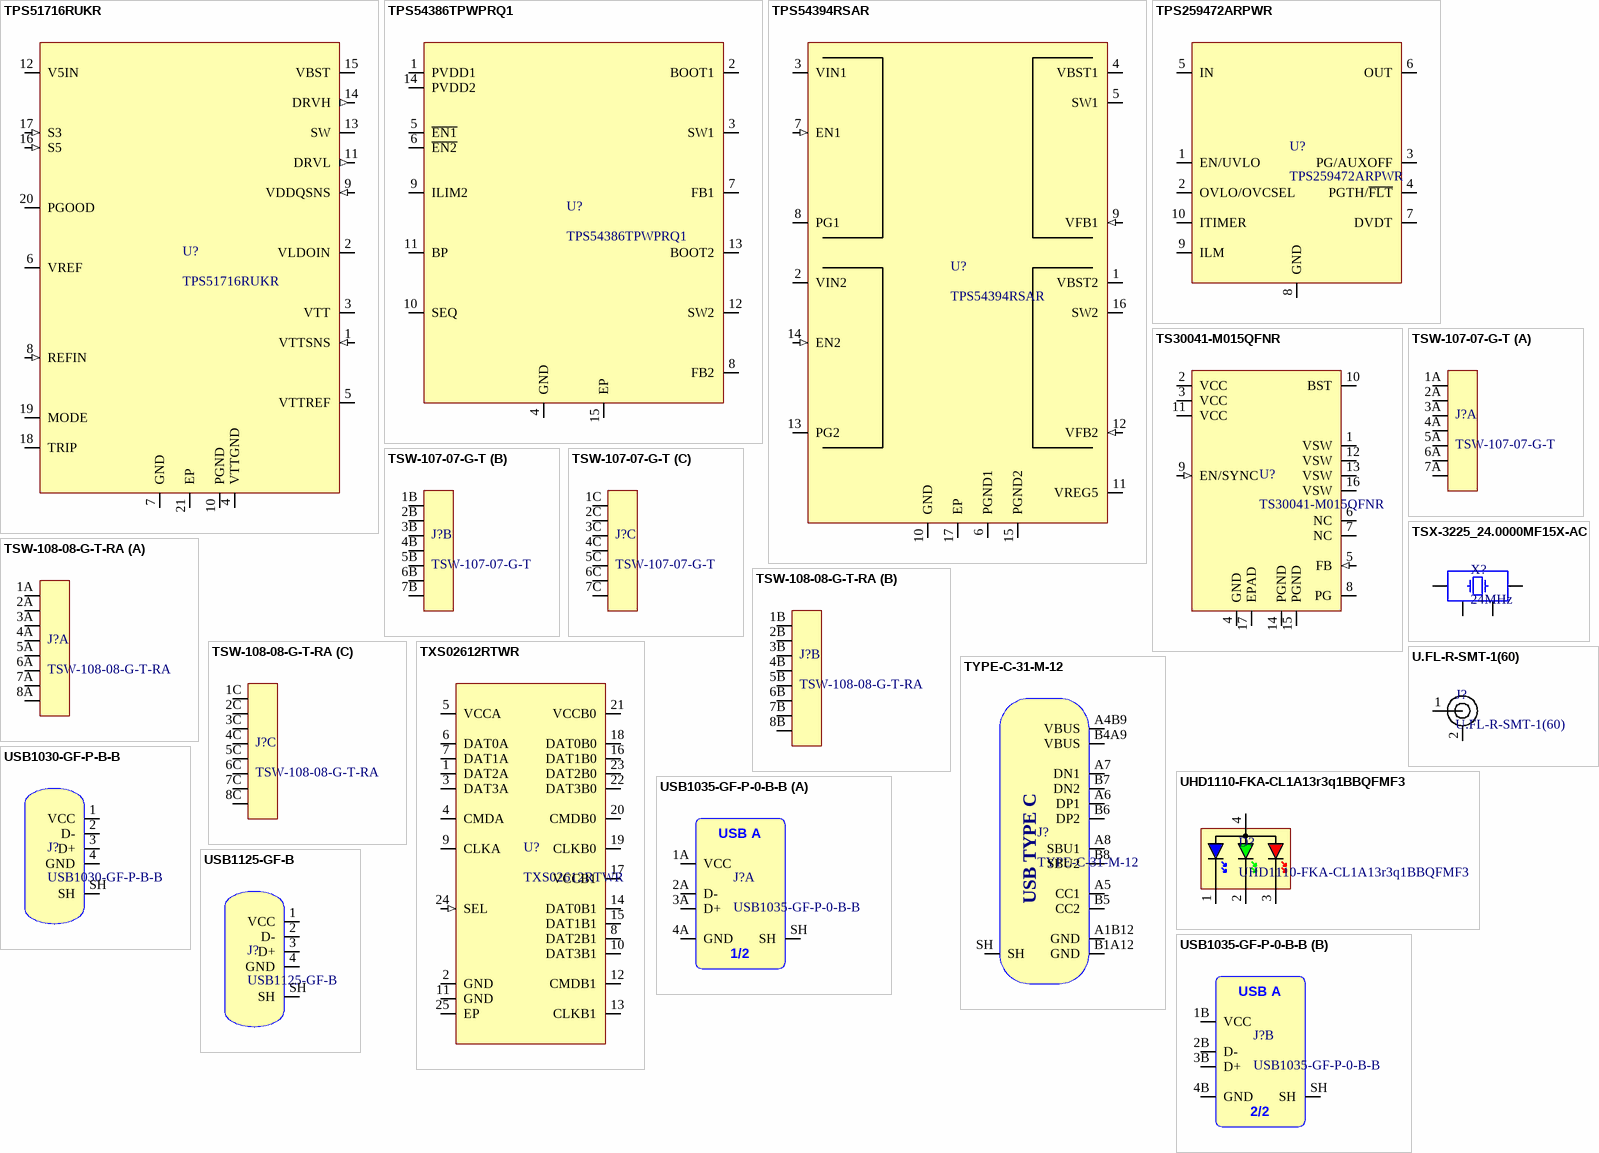
[diagram p24: symbols TPS51716RUKR to USB1125-GF-B]

## TPS51716RUKR
designator U?
DDR Memory Power Solution Synchronous Buck Controller, 2-A LDO, With Buffered Reference; Manufacturer: Texas Instruments; Manufacturer Part Number: TPS51716RUKR; Distributor Link: https://eu.mouser.com/ProductDetail/Texas-Instruments/TPS51716RUKR?qs=FBI%252BX3tnPf0Ie0vqCZ0PLg%3D%3D; LCSC: TPS51716RUKR
footprint WQFN-20
pins: 1 VTTSNS (in), 2 VLDOIN (power), 3 VTT (power), 4 VTTGND (power), 5 VTTREF (power), 6 VREF (power), 7 GND (power), 8 REFIN (in), 9 VDDQSNS (in), 10 PGND (power), 11 DRVL (out), 12 V5IN (power), 13 SW (power), 14 DRVH (out), 15 VBST (power), 16 S5 (in), 17 S3 (in), 18 TRIP, 19 MODE, 20 PGOOD (oc), 21 EP (power)

## TPS54386TPWPRQ1
designator U?
Dual Buck Regulators 4.5-28V, Dual 3A Out 600kHz HTSSOP-14; Manufacturer: Texas Instruments; Manufacturer Part Number: TPS54386TPWPRQ1
footprint HTSSOP-14-EP
pins: 1 PVDD1, 2 BOOT1, 3 SW1, 4 GND, 5 ~{EN1}, 6 ~{EN2}, 7 FB1, 8 FB2, 9 ILIM2, 10 SEQ, 11 BP, 12 SW2, 13 BOOT2, 14 PVDD2, 15 EP

## TPS54394RSAR
designator U?
3A Dual Channel Synchronous Step-Down Switcher with Integrated FET; Manufacturer: Texas Instruments; Manufacturer Part Number: TPS54394RSAR; Distributor Link: https://www.mouser.de/ProductDetail/Texas-Instruments/TPS54394RSAR?qs=iIeLWXrA%252B1VlbymFcvQr%252BA%3D%3D; LCSC: C2071452
footprint QFN-16
pins: 1 VBST2 (power), 2 VIN2 (power), 3 VIN1 (power), 4 VBST1 (power), 5 SW1 (power), 6 PGND1 (power), 7 EN1 (in), 8 PG1 (oc), 9 VFB1 (in), 10 GND (power), 11 VREG5 (power), 12 VFB2 (in), 13 PG2 (oc), 14 EN2 (in), 15 PGND2 (power), 16 SW2 (power), 17 EP (power)

## TPS259472ARPWR
designator U?
2.7-V–23-V, 5.5-A, 28-mΩ True Reverse Current Blocking eFuse with / Input Reverse Polarity Protection; Manufacturer: Texas Instruments; Manufacturer Part Number: TPS259472ARPWR
footprint VQFN-HR-10
pins: 1 EN/UVLO, 2 OVLO/OVCSEL, 3 PG/AUXOFF, 4 PGTH/~{FLT}, 5 IN, 6 OUT, 7 DVDT, 8 GND, 9 ILM, 10 ITIMER

## TS30041-M015QFNR
designator U?
High Efficiency 1A Current-Mode Synchronous Buck Converter, 2.2MHz; Manufacturer: Semtech; Manufacturer Part Number: TS30041-M015QFNR
footprint QFN16-3x3-0.5 (QFN, 16-Leads, Body 3.00x3.00mm, Pitch 0.50mm, Thermal Pad 1.58x1.58mm, IPC Medium Density)
pins: 1 VSW (power), 2 VCC (power), 3 VCC (power), 4 GND (power), 5 FB (in), 6 NC, 7 NC, 8 PG (oc), 9 EN/SYNC (in), 10 BST, 11 VCC (power), 12 VSW (power), 13 VSW (power), 14 PGND (power), 15 PGND (power), 16 VSW (power), 17 EPAD (power)

## TSW-107-07-G-T
designator J?
Header 21 Position 3 Rows 2.54mm Pitch Right Angle; Manufacturer: Samtec; Manufacturer Part Number: TSW-107-07-G-T
footprint TSW-107-07-G-T
part A pins: 1A, 2A, 3A, 4A, 5A, 6A, 7A
part B pins: 1B, 2B, 3B, 4B, 5B, 6B, 7B
part C pins: 1C, 2C, 3C, 4C, 5C, 6C, 7C

## TSW-108-08-G-T-RA
designator J?
Header 24 Position 3 Rows 2.54mm Pitch Right Angle; Manufacturer: Samtec; Manufacturer Part Number: TSW-108-08-G-T-RA
footprint TSW-108-08-G-T-RA
part A pins: 1A, 2A, 3A, 4A, 5A, 6A, 7A, 8A
part B pins: 1B, 2B, 3B, 4B, 5B, 6B, 7B, 8B
part C pins: 1C, 2C, 3C, 4C, 5C, 6C, 7C, 8C

## TSX-3225_24.0000MF15X-AC
designator X?, comment 24MHz
Crystal SMD 24MHz 10PPM 7pF 3225; Manufacturer: Epson; Manufacturer Part Number: TSX-3225 24.0000MF15X-AC
footprint XTAL_3225
pins: 1, 2, 3, 4

## TXS02612RTWR
designator U?
SDIO PORT EXPANDER WITH VOLTAGE-LEVEL TRANSLATION; Manufacturer: Texas Instruments; Manufacturer Part Number: TXS02612RTWR; Distributor Link: https://www.lcsc.com/product-detail/Interface-Specialized_Texas-Instruments-TXS02612RTWR_C140276.html; LCSC: C140276
footprint QFN50P400X400X80_HS-25N (QFN, 24-Leads, Body 4.00x4.00mm, Pitch 0.50mm, Thermal Pad 2.50x2.50mm, IPC Medium Density)
pins: 1 DAT2A (io), 2 GND (power), 3 DAT3A (io), 4 CMDA (io), 5 VCCA (power), 6 DAT0A (io), 7 DAT1A (io), 8 DAT2B1 (io), 9 CLKA (io), 10 DAT3B1 (io), 11 GND (power), 12 CMDB1 (io), 13 CLKB1 (io), 14 DAT0B1 (io), 15 DAT1B1 (io), 16 DAT1B0 (io), 17 VCCB1 (power), 18 DAT0B0 (io), 19 CLKB0 (io), 20 CMDB0 (io), 21 VCCB0 (power), 22 DAT3B0 (io), 23 DAT2B0 (io), 24 SEL (in), 25 EP (power)

## TYPE-C-31-M-12
designator J?
USB Type C Connector Horizontal SMT; Manufacturer: Koren Hroparts; Manufacturer Part Number: TYPE-C-31-M-12
footprint TYPE-C-31-M-12
pins: A1B12 GND (power), A4B9 VBUS (power), A5 CC1, A6 DP1 (io), A7 DN1 (io), A8 SBU1 (io), B1A12 GND (power), B4A9 VBUS (power), B5 CC2 (hiz), B6 DP2 (io), B7 DN2 (io), B8 SBU2 (io), SH (power)
text: USB TYPE C

## U.FL-R-SMT-1(60)
designator J?
RF Connector u.FL 50 Ohms 6 GHz; Manufacturer: Hirose Connector; Manufacturer Part Number: U.FL-R-SMT-1(60)
footprint U.FL-R-SMT-1(60)
pins: 1, 2

## UHD1110-FKA-CL1A13r3q1BBQFMF3
designator D?
RGB LED If=10mA Vf=1.9,2.9,2.9; Manufacturer: Cree; Manufacturer Part Number: UHD1110-FKA-CL1A13r3q1BBQFMF3
footprint UHD1110-FKA-CL1A13r3q1BBQFMF3
pins: 1, 2, 3, 4

## USB1030-GF-P-B-B
designator J?
USB Connector Type B 2.0 Through-Hole; Manufacturer: GCT; Manufacturer Part Number: USB1030-GF-P-B-B
footprint USB1030-GF-P-B-B
pins: 1 VCC, 2 D-, 3 D+, 4 GND, SH

## USB1035-GF-P-0-B-B
designator J?
USB Connector Type A 2.0 Dual Stacked Through-Hole; Manufacturer: GCT; Manufacturer Part Number: USB1035-GF-P-0-B-B; Distributor Link: https://www.mouser.de/ProductDetail/GCT/USB1035-GF-P-0-B-B?qs=KUoIvG%2F9IlZdvtWwZEQX0g%3D%3D
footprint USB1035-GF-P-0-B-B
part A pins: 1A VCC, 2A D-, 3A D+, 4A GND, SH
part B pins: 1B VCC, 2B D-, 3B D+, 4B GND, SH
part A text: USB A; 1/2
part B text: USB A; 2/2

## USB1125-GF-B
designator J?
USB Connector Type A 2.0 Through-Hole; Manufacturer: GCT; Manufacturer Part Number: USB1125-GF-B
footprint USB1125-GF-B
pins: 1 VCC, 2 D-, 3 D+, 4 GND, SH

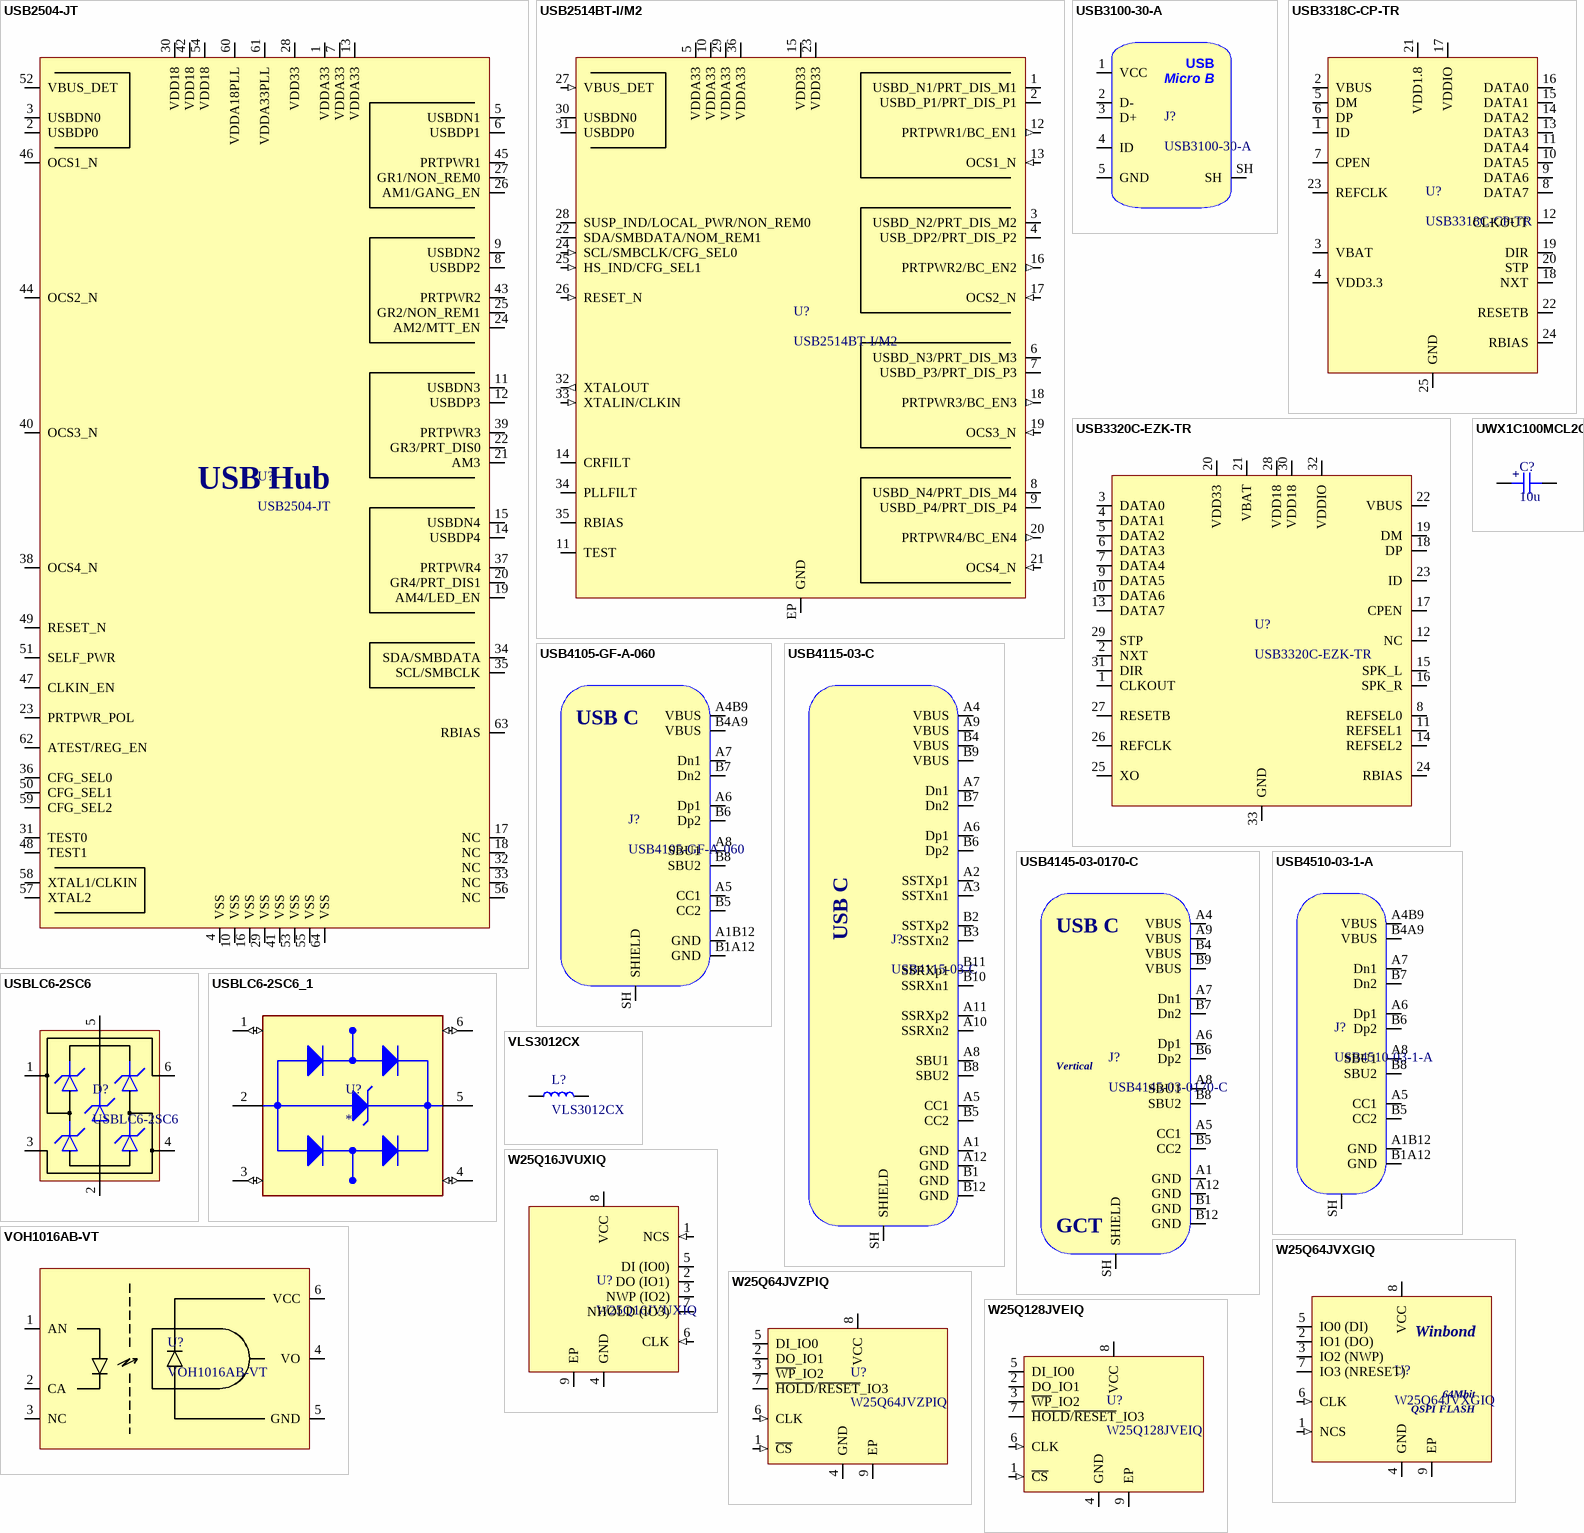
[diagram p25: symbols USB2504-JT to W25Q128JVEIQ]

## USB2504-JT
designator U?
USB 2.0 4 Port Hub TQFP-64; Manufacturer: Microchip; Manufacturer Part Number: USB2504-JT
footprint TQFP-64-0.5 (TSQFP, 64-Leads, Body 10,00x10,00mm, Pitch 0,50mm, IPC Medium Density)
pins: 1 VDDA33, 2 USBDP0, 3 USBDN0, 4 VSS, 5 USBDN1, 6 USBDP1, 7 VDDA33, 8 USBDP2, 9 USBDN2, 10 VSS, 11 USBDN3, 12 USBDP3, 13 VDDA33, 14 USBDP4, 15 USBDN4, 16 VSS, 17 NC, 18 NC, 19 AM4/LED_EN, 20 GR4/PRT_DIS1, 21 AM3, 22 GR3/PRT_DIS0, 23 PRTPWR_POL, 24 AM2/MTT_EN, 25 GR2/NON_REM1, 26 AM1/GANG_EN, 27 GR1/NON_REM0, 28 VDD33, 29 VSS, 30 VDD18, 31 TEST0, 32 NC, 33 NC, 34 SDA/SMBDATA, 35 SCL/SMBCLK, 36 CFG_SEL0, 37 PRTPWR4, 38 OCS4_N, 39 PRTPWR3, 40 OCS3_N, 41 VSS, 42 VDD18, 43 PRTPWR2, 44 OCS2_N, 45 PRTPWR1, 46 OCS1_N, 47 CLKIN_EN, 48 TEST1, 49 RESET_N, 50 CFG_SEL1, 51 SELF_PWR, 52 VBUS_DET, 53 VSS, 54 VDD18, 55 VSS, 56 NC, 57 XTAL2, 58 XTAL1/CLKIN, 59 CFG_SEL2, 60 VDDA18PLL, 61 VDDA33PLL, 62 ATEST/REG_EN, 63 RBIAS, 64 VSS
text: USB Hub

## USB2514BT-I/M2
designator U?
USB 2.0 High-Speed 4-Port Hub; Manufacturer: Microchip; Manufacturer Part Number: USB2514BT-I/M2; Distributor Link: https://www.mouser.de/ProductDetail/Microchip-Technology/USB2514BT-I-M2?qs=uus7iwvxYD9qxHHW9Td2qw%3D%3D; LCSC: C510949
footprint SQFN-36
pins: 1 USBD_N1/PRT_DIS_M1 (io), 2 USBD_P1/PRT_DIS_P1 (io), 3 USBD_N2/PRT_DIS_M2 (io), 4 USB_DP2/PRT_DIS_P2 (io), 5 VDDA33 (power), 6 USBD_N3/PRT_DIS_M3 (io), 7 USBD_P3/PRT_DIS_P3 (io), 8 USBD_N4/PRT_DIS_M4 (io), 9 USBD_P4/PRT_DIS_P4 (io), 10 VDDA33 (power), 11 TEST, 12 PRTPWR1/BC_EN1 (out), 13 OCS1_N (in), 14 CRFILT (power), 15 VDD33 (power), 16 PRTPWR2/BC_EN2 (out), 17 OCS2_N (in), 18 PRTPWR3/BC_EN3 (out), 19 OCS3_N (in), 20 PRTPWR4/BC_EN4 (out), 21 OCS4_N (in), 22 SDA/SMBDATA/NOM_REM1 (io), 23 VDD33 (power), 24 SCL/SMBCLK/CFG_SEL0 (in), 25 HS_IND/CFG_SEL1 (in), 26 RESET_N (in), 27 VBUS_DET (in), 28 SUSP_IND/LOCAL_PWR/NON_REM0 (io), 29 VDDA33 (power), 30 USBDN0 (io), 31 USBDP0 (io), 32 XTALOUT (out), 33 XTALIN/CLKIN (in), 34 PLLFILT (power), 35 RBIAS, 36 VDDA33 (power), EP GND (power)

## USB3100-30-A
designator J?
USB Connector Type Micro B 2.0 SMD Reverse Mount; Manufacturer: GCT; Manufacturer Part Number: USB3100-30-A
footprint USB3100-30-A
pins: 1 VCC, 2 D-, 3 D+, 4 ID, 5 GND, SH
text: USB; Micro B

## USB3318C-CP-TR
designator U?
USB Interface IC High Speed USB 1.8V ULPI; Manufacturer: Microchip; Manufacturer Part Number: USB3318C-CP-TR
footprint QFN50P400X400X100_HS-25N (QFN, 24-Leads, Body 4.00x4.00mm, Pitch 0.50mm, Thermal Pad 2.50x2.50mm, IPC Medium Density)
pins: 1 ID, 2 VBUS, 3 VBAT, 4 VDD3.3, 5 DM, 6 DP, 7 CPEN, 8 DATA7, 9 DATA6, 10 DATA5, 11 DATA4, 12 CLKOUT, 13 DATA3, 14 DATA2, 15 DATA1, 16 DATA0, 17 VDDIO, 18 NXT, 19 DIR, 20 STP, 21 VDD1.8, 22 RESETB, 23 REFCLK, 24 RBIAS, 25 GND

## USB3320C-EZK-TR
designator U?
Hi-Speed USB 2.0 ULPI Transceiver; Manufacturer: Microchip; Manufacturer Part Number: USB3320C-EZK-TR
footprint QFN-32-5x5x0.85mm
pins: 1 CLKOUT, 2 NXT, 3 DATA0, 4 DATA1, 5 DATA2, 6 DATA3, 7 DATA4, 8 REFSEL0, 9 DATA5, 10 DATA6, 11 REFSEL1, 12 NC, 13 DATA7, 14 REFSEL2, 15 SPK_L, 16 SPK_R, 17 CPEN, 18 DP, 19 DM, 20 VDD33, 21 VBAT, 22 VBUS, 23 ID, 24 RBIAS, 25 XO, 26 REFCLK, 27 RESETB, 28 VDD18, 29 STP, 30 VDD18, 31 DIR, 32 VDDIO, 33 GND

## USB4105-GF-A-060
designator J?
USB Connector Type C SMT 12 Pin; Manufacturer: GCT; Manufacturer Part Number: USB4105-GF-A-060; Distributor Link: https://eu.mouser.com/ProductDetail/GCT/USB4105-GF-A-060?qs=QNEnbhJQKvY2mocwNJzgfA%3D%3D
footprint USB4105-GF-A-060
pins: A1B12 GND, A4B9 VBUS, A5 CC1, A6 Dp1, A7 Dn1, A8 SBU1, B1A12 GND, B4A9 VBUS, B5 CC2, B6 Dp2, B7 Dn2, B8 SBU2, SH SHIELD
text: USB C

## USB4115-03-C
designator J?
USB Connector Type C Vertical 24 Position 5A USB 3.2 Gen 2; Manufacturer: GCT; Manufacturer Part Number: USB4115-03-C
footprint USB4115-03-C
pins: A1 GND, A2 SSTXp1, A3 SSTXn1, A4 VBUS, A5 CC1, A6 Dp1, A7 Dn1, A8 SBU1, A9 VBUS, A10 SSRXn2, A11 SSRXp2, A12 GND, B1 GND, B2 SSTXp2, B3 SSTXn2, B4 VBUS, B5 CC2, B6 Dp2, B7 Dn2, B8 SBU2, B9 VBUS, B10 SSRXn1, B11 SSRXp1, B12 GND, SH SHIELD
text: USB C

## USB4145-03-0170-C
designator J?
USB Connector Type C SMT 16 Pin Vertical; Manufacturer: GCT; Manufacturer Part Number: USB4145-03-0170-C
footprint USB4145-03-0170-C
pins: A1 GND, A4 VBUS, A5 CC1, A6 Dp1, A7 Dn1, A8 SBU1, A9 VBUS, A12 GND, B1 GND, B4 VBUS, B5 CC2, B6 Dp2, B7 Dn2, B8 SBU2, B9 VBUS, B12 GND, SH SHIELD
text: USB C; Vertical

## USB4510-03-1-A
designator J?
USB Connector Type C SMT Mid-Mount 16 Pin; Manufacturer: GCT; Manufacturer Part Number: USB4510-03-1-A
footprint USB4510-03-1-A
pins: A1B12 GND, A4B9 VBUS, A5 CC1, A6 Dp1, A7 Dn1, A8 SBU1, B1A12 GND, B4A9 VBUS, B5 CC2, B6 Dp2, B7 Dn2, B8 SBU2, SH SHIELD

## USBLC6-2SC6
designator D?
Low-Capacitance ESD Protection USB; Manufacturer: STMicroelectronics; Manufacturer Part Number: USBLC6-2SC6; Distributor Link: https://www.mouser.de/ProductDetail/STMicroelectronics/USBLC6-2SC6?qs=po45yt2pPpu%2FhNIlwQdTlg%3D%3D
footprint SOT-23-6
pins: 1 IO1 (io), 2 GND (power), 3 IO2 (io), 4 IO2 (io), 5 VBUS (power), 6 IO1 (io)

## USBLC6-2SC6_1
designator U?
17V Clamp 5A (8/20Âµs) Ipp Tvs Diode Surface Mount SOT-23-6; MF: STMicroelectronics; MP: USBLC6-2SC6; DigiKey Part Number: USBLC6-2SC6; SnapEDA_Link: https://www.snapeda.com/parts/USBLC6-2SC6/STMicroelectronics/view-part/?ref=snap; Check_prices: https://www.snapeda.com/parts/USBLC6-2SC6/STMicroelectronics/view-part/?ref=eda; Purchase-URL: https://pricing.snapeda.com/search/part/USBLC6-2SC6/?ref=eda; Price: None; Availability: In Stock; Package: SOT-23-6 STMicroelectronics; LCSC Part Number: USBLC6-2SC6
footprint SOT95P280X145-6N
pins: 1 I/O1_IN (io), 2 GND (power), 3 I/O2_IN (io), 4 I/O2_OUT (io), 5 VBUS (power), 6 I/O1_OUT (io)

## UWX1C100MCL2GB
designator C?, comment 10u
Capacitor SMD Aluminium Electrolytic 10uF 16V D3mm H5.4mm; Manufacturer: Nichicon; Manufacturer Part Number: UWX1C100MCL2GB
footprint CAP_AE_ SMD_D3_L5MM4 (Aluminum Electrolytic Capacitor, Body 3.30x3.30x5.50mm, IPC Medium Density)
pins: 1, 2
text: +

## VLS3012CX
designator L?
Inductor SMD VLS3012CX TDK Shielded 3x3x1.2mm; Manufacturer: TDK; Manufacturer Part Number: VLS3012CX
footprint VLS3012CX
pins: 1, 2

## VOH1016AB-VT
designator U?
High Speed Optocoupler, 1 MBd, Schmitt Trigger; Manufacturer: Vishay; Manufacturer Part Number: VOH1016AB-VT; Distributor Link: https://eu.mouser.com/ProductDetail/Vishay-Semiconductors/VOH1016AB-VT?qs=PqoDHHvF64%252B%2FhNVqIV9aTQ%3D%3D
footprint SMD-6
pins: 1 AN, 2 CA, 3 NC, 4 VO (oc), 5 GND (power), 6 VCC (power)

## W25Q16JVUXIQ
designator U?
16M-BIT SERIAL FLASH MEMORY WITH DUAL/QUAD SPI USON-8; Manufacturer: Winbond; Manufacturer Part Number: W25Q16JVUXIQ; LCSC: C2843335
footprint USON-8-2X3MM
pins: 1 NCS (in), 2 DO (IO1) (io), 3 NWP (IO2) (io), 4 GND (power), 5 DI (IO0) (io), 6 CLK (in), 7 NHOLD (IO3) (io), 8 VCC (power), 9 EP (power)

## W25Q64JVXGIQ
designator U?
64M-BIT SERIAL FLASH MEMORY WITH DUAL, QUAD SPI; Manufacturer: Winbond; Manufacturer Part Number: W25Q64JVXGIQ; Distributor Link: https://www.lcsc.com/product-detail/NOR-FLASH_Winbond-Elec-W25Q64JVXGIQ_C2940195.html; LCSC: C2940195
footprint XSON-8-4x4-EP
pins: 1 NCS (in), 2 IO1 (DO) (io), 3 IO2 (NWP) (io), 4 GND (power), 5 IO0 (DI) (io), 6 CLK (in), 7 IO3 (NRESET) (io), 8 VCC, 9 EP (power)
text: 64Mbit; QSPI FLASH

## W25Q64JVZPIQ
designator U?
3V 64M-BIT SERIAL FLASH MEMORY WITH DUAL/QUAD SPI WSON-8-6x5; Manufacturer: Winbond; Manufacturer Part Number: W25Q64JVZPIQ; Distributor Link: https://www.mouser.de/ProductDetail/Winbond/W25Q64JVZPIQ?qs=qSfuJ%252Bfl%2Fd7Nj8XAKQ%2FzKA%3D%3D
footprint WSON-8-6x5mm
pins: 1 ~{CS} (in), 2 DO_IO1 (io), 3 ~{WP}_IO2 (io), 4 GND (power), 5 DI_IO0 (io), 6 CLK (in), 7 ~{HOLD}/~{RESET}_IO3 (io), 8 VCC (power), 9 EP (power)

## W25Q128JVEIQ
designator U?
3V 128M-BIT SERIAL FLASH MEMORY WITH DUAL/QUAD SPI & QPI & DTR WSON-8; Manufacturer: Winbond; Manufacturer Part Number: W25Q128JVEIQ
footprint WSON-8-8X6 (8-Pad WSON 8x6-mm (Package Code E) (Winbond))
pins: 1 ~{CS} (in), 2 DO_IO1 (io), 3 ~{WP}_IO2 (io), 4 GND (power), 5 DI_IO0 (io), 6 CLK (in), 7 ~{HOLD}/~{RESET}_IO3 (io), 8 VCC (power), 9 EP (power)

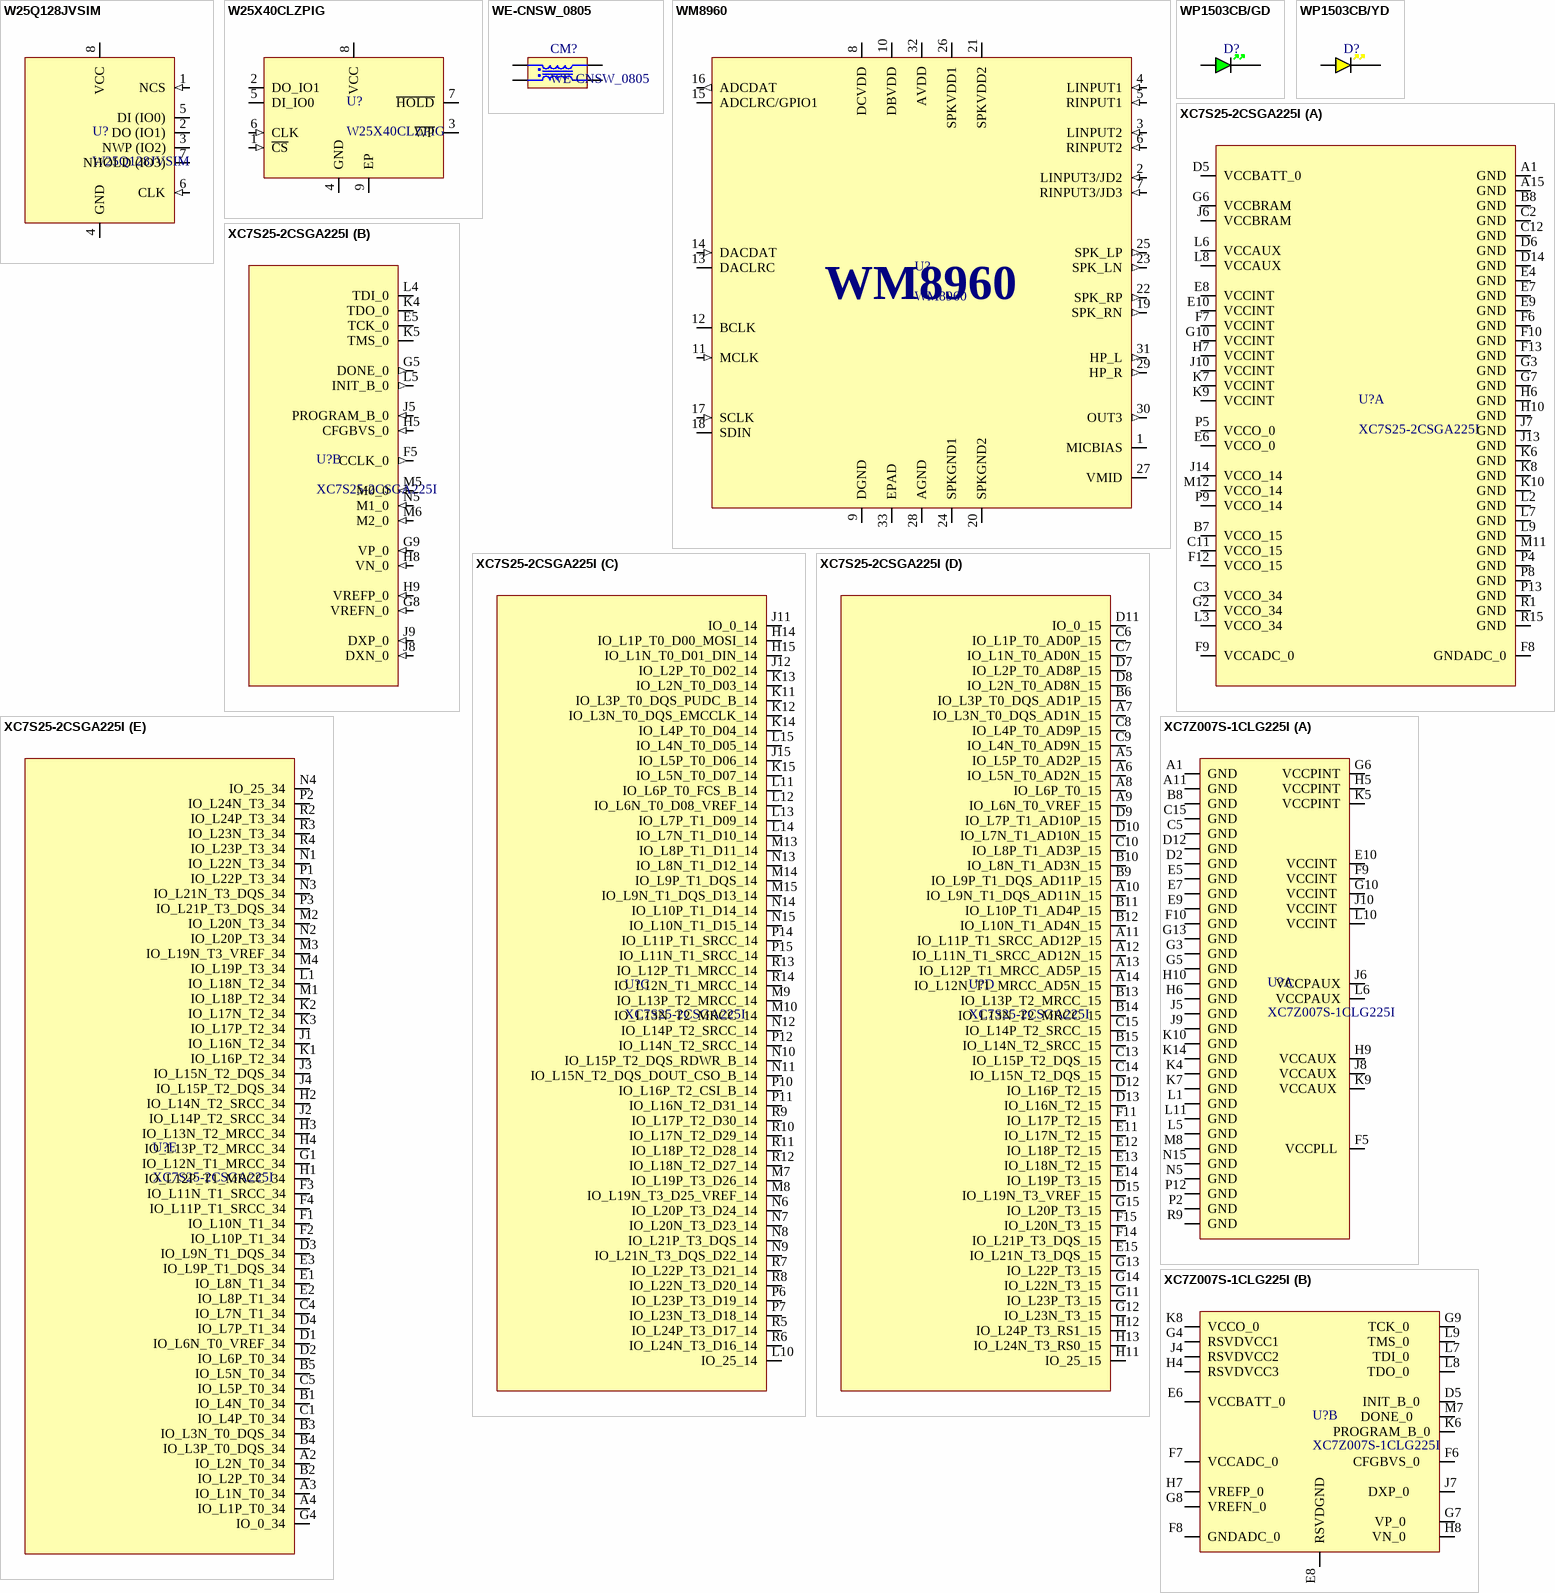
[diagram p26: symbols W25Q128JVSIM to XC7Z007S-1CLG225I]

## W25Q128JVSIM
designator U?
128M-BIT / SERIAL FLASH MEMORY WITH / DUAL/QUAD SPI & QPI & DTR SOIC-8; Manufacturer: Winbond; Manufacturer Part Number: W25Q128JVSIM
footprint SOIC-8 (SOIC, 8-Leads, Body 4.91x3.90mm, Pitch 1.27mm, IPC Medium Density)
pins: 1 NCS (in), 2 DO (IO1) (io), 3 NWP (IO2) (io), 4 GND (power), 5 DI (IO0) (io), 6 CLK (in), 7 NHOLD (IO3) (io), 8 VCC (power)

## W25X40CLZPIG
designator U?
2.5/3/3.3V 4M-BIT SERIAL FLASH MEMORY WITH 4KB SECTORS AND DUAL I/O SPI WSON8-6x5; Manufacturer: Winbond; Manufacturer Part Number: W25X40CLZPIG; Distributor Link: https://www.mouser.de/ProductDetail/Winbond/W25X40CLZPIG?qs=qSfuJ%252Bfl%2Fd6WKc63uIR%252BcA%3D%3D
footprint WSON-8-6x5mm
pins: 1 ~{CS} (in), 2 DO_IO1 (io), 3 ~{WP} (io), 4 GND (power), 5 DI_IO0 (io), 6 CLK (in), 7 ~{HOLD} (io), 8 VCC (power), 9 EP (power)

## WE-CNSW_0805
designator CM?
Common Mode Choke Wurth CNSW 0805; Manufacturer: Wurth Elektronik; Manufacturer Part Number: *
footprint WE-CNSW_0805
pins: 1, 2, 3, 4

## WM8960
designator U?
Stereo CODEC with 1W Stereo Class D Speaker Drivers and / Headphone Drivers for Portable Audio Applications; Manufacturer: Wolfson; Manufacturer Part Number: WM8960CGEFL/RV
footprint QFN32-5x5-0.5
pins: 1 MICBIAS (power), 2 LINPUT3/JD2 (in), 3 LINPUT2 (in), 4 LINPUT1 (in), 5 RINPUT1 (in), 6 RINPUT2 (in), 7 RINPUT3/JD3 (in), 8 DCVDD (power), 9 DGND (power), 10 DBVDD (power), 11 MCLK (in), 12 BCLK (io), 13 DACLRC (io), 14 DACDAT (in), 15 ADCLRC/GPIO1 (io), 16 ADCDAT (out), 17 SCLK (in), 18 SDIN (io), 19 SPK_RN (out), 20 SPKGND2 (power), 21 SPKVDD2 (power), 22 SPK_RP (out), 23 SPK_LN (out), 24 SPKGND1 (power), 25 SPK_LP (out), 26 SPKVDD1 (power), 27 VMID (power), 28 AGND (power), 29 HP_R (out), 30 OUT3 (out), 31 HP_L (out), 32 AVDD (power), 33 EPAD (power)

## WP1503CB/GD
designator D?  (value not drawn)
LED Circuit Board Indicators Green Diffused 568nm; Manufacturer: Kingbright; Manufacturer Part Number: WP1503CB/GD; Distributor Link: https://www.mouser.de/ProductDetail/Kingbright/WP1503CB-GD?qs=58z0TXQGVST0%2FH9DQayy5g%3D%3D
footprint WP1503CB
pins: A, K

## WP1503CB/YD
designator D?  (value not drawn)
LED Circuit Board Indicators Yellow Diffused 588nm; Manufacturer: Kingbright; Manufacturer Part Number: WP1503CB/YD; Distributor Link: https://www.mouser.de/ProductDetail/Kingbright/WP1503CB-YD?qs=58z0TXQGVSTfyR7OMjpk3A%3D%3D
footprint WP1503CB
pins: A, K

## XC7S25-2CSGA225I
designator U?
Field-Programmable Gate Array FPGA Spartan-7 Series CSGA-225 Speed Grade 2 Industrial Temperature Range; Manufacturer: Xilinx; Manufacturer Part Number: XC7S25-2CSGA225I; Distributor Link: https://www.lcsc.com/product-detail/Programmable-Logic-Device-CPLDs-FPGAs_XILINX-XC7S25-2CSGA225I_C1521711.html; LCSC: C1521711
footprint CSGA225 (BGA, 225-Leads, Body 13.00x13.00mmx1.40mm, Pitch 0.80mm)
part A pins: A1 GND (power), A15 GND (power), B7 VCCO_15 (power), B8 GND (power), C2 GND (power), C3 VCCO_34 (power), C11 VCCO_15 (power), C12 GND (power), D5 VCCBATT_0 (power), D6 GND (power), D14 GND (power), E4 GND (power), E6 VCCO_0 (power), E7 GND (power), E8 VCCINT (power), E9 GND (power), E10 VCCINT (power), F6 GND (power), F7 VCCINT (power), F8 GNDADC_0 (power), F9 VCCADC_0 (power), F10 GND (power), F12 VCCO_15 (power), F13 GND (power), G2 VCCO_34 (power), G3 GND (power), G6 VCCBRAM (power), G7 GND (power), G10 VCCINT (power), H6 GND (power), H7 VCCINT (power), H10 GND (power), J6 VCCBRAM (power), J7 GND (power), J10 VCCINT (power), J13 GND (power), J14 VCCO_14 (power), K6 GND (power), K7 VCCINT (power), K8 GND (power), K9 VCCINT (power), K10 GND (power), L2 GND (power), L3 VCCO_34 (power), L6 VCCAUX (power), L7 GND (power), L8 VCCAUX (power), L9 GND (power), M11 GND (power), M12 VCCO_14 (power), P4 GND (power), P5 VCCO_0 (power), P8 GND (power), P9 VCCO_14 (power), P13 GND (power), R1 GND (power), R15 GND (power)
part B pins: E5 TCK_0 (io), F5 CCLK_0 (out), G5 DONE_0 (out), G8 VREFN_0 (in), G9 VP_0 (in), H5 CFGBVS_0 (in), H8 VN_0 (in), H9 VREFP_0 (in), J5 PROGRAM_B_0 (in), J8 DXN_0 (in), J9 DXP_0 (in), K4 TDO_0 (io), K5 TMS_0 (io), L4 TDI_0 (io), L5 INIT_B_0 (out), M5 M0_0 (in), M6 M2_0 (in), N5 M1_0 (in)
part C pins: H14 IO_L1P_T0_D00_MOSI_14 (io), H15 IO_L1N_T0_D01_DIN_14 (io), J11 IO_0_14 (io), J12 IO_L2P_T0_D02_14 (io), J15 IO_L5P_T0_D06_14 (io), K11 IO_L3P_T0_DQS_PUDC_B_14 (io), K12 IO_L3N_T0_DQS_EMCCLK_14 (io), K13 IO_L2N_T0_D03_14 (io), K14 IO_L4P_T0_D04_14 (io), K15 IO_L5N_T0_D07_14 (io), L10 IO_25_14 (io), L11 IO_L6P_T0_FCS_B_14 (io), L12 IO_L6N_T0_D08_VREF_14 (io), L13 IO_L7P_T1_D09_14 (io), L14 IO_L7N_T1_D10_14 (io), L15 IO_L4N_T0_D05_14 (io), M7 IO_L19P_T3_D26_14 (io), M8 IO_L19N_T3_D25_VREF_14 (io), M9 IO_L13P_T2_MRCC_14 (io), M10 IO_L13N_T2_MRCC_14 (io), M13 IO_L8P_T1_D11_14 (io), M14 IO_L9P_T1_DQS_14 (io), M15 IO_L9N_T1_DQS_D13_14 (io), N6 IO_L20P_T3_D24_14 (io), N7 IO_L20N_T3_D23_14 (io), N8 IO_L21P_T3_DQS_14 (io), N9 IO_L21N_T3_DQS_D22_14 (io), N10 IO_L15P_T2_DQS_RDWR_B_14 (io), N11 IO_L15N_T2_DQS_DOUT_CSO_B_14 (io), N12 IO_L14P_T2_SRCC_14 (io), N13 IO_L8N_T1_D12_14 (io), N14 IO_L10P_T1_D14_14 (io), N15 IO_L10N_T1_D15_14 (io), P6 IO_L23P_T3_D19_14 (io), P7 IO_L23N_T3_D18_14 (io), P10 IO_L16P_T2_CSI_B_14 (io), P11 IO_L16N_T2_D31_14 (io), P12 IO_L14N_T2_SRCC_14 (io), P14 IO_L11P_T1_SRCC_14 (io), P15 IO_L11N_T1_SRCC_14 (io), R5 IO_L24P_T3_D17_14 (io), R6 IO_L24N_T3_D16_14 (io), R7 IO_L22P_T3_D21_14 (io), R8 IO_L22N_T3_D20_14 (io), R9 IO_L17P_T2_D30_14 (io), R10 IO_L17N_T2_D29_14 (io), R11 IO_L18P_T2_D28_14 (io), R12 IO_L18N_T2_D27_14 (io), R13 IO_L12P_T1_MRCC_14 (io), R14 IO_L12N_T1_MRCC_14 (io)
part D pins: A5 IO_L5P_T0_AD2P_15 (io), A6 IO_L5N_T0_AD2N_15 (io), A7 IO_L3N_T0_DQS_AD1N_15 (io), A8 IO_L6P_T0_15 (io), A9 IO_L6N_T0_VREF_15 (io), A10 IO_L9N_T1_DQS_AD11N_15 (io), A11 IO_L11P_T1_SRCC_AD12P_15 (io), A12 IO_L11N_T1_SRCC_AD12N_15 (io), A13 IO_L12P_T1_MRCC_AD5P_15 (io), A14 IO_L12N_T1_MRCC_AD5N_15 (io), B6 IO_L3P_T0_DQS_AD1P_15 (io), B9 IO_L9P_T1_DQS_AD11P_15 (io), B10 IO_L8N_T1_AD3N_15 (io), B11 IO_L10P_T1_AD4P_15 (io), B12 IO_L10N_T1_AD4N_15 (io), B13 IO_L13P_T2_MRCC_15 (io), B14 IO_L13N_T2_MRCC_15 (io), B15 IO_L14N_T2_SRCC_15 (io), C6 IO_L1P_T0_AD0P_15 (io), C7 IO_L1N_T0_AD0N_15 (io), C8 IO_L4P_T0_AD9P_15 (io), C9 IO_L4N_T0_AD9N_15 (io), C10 IO_L8P_T1_AD3P_15 (io), C13 IO_L15P_T2_DQS_15 (io), C14 IO_L15N_T2_DQS_15 (io), C15 IO_L14P_T2_SRCC_15 (io), D7 IO_L2P_T0_AD8P_15 (io), D8 IO_L2N_T0_AD8N_15 (io), D9 IO_L7P_T1_AD10P_15 (io), D10 IO_L7N_T1_AD10N_15 (io), D11 IO_0_15 (io), D12 IO_L16P_T2_15 (io), D13 IO_L16N_T2_15 (io), D15 IO_L19N_T3_VREF_15 (io), E11 IO_L17N_T2_15 (io), E12 IO_L18P_T2_15 (io), E13 IO_L18N_T2_15 (io), E14 IO_L19P_T3_15 (io), E15 IO_L21N_T3_DQS_15 (io), F11 IO_L17P_T2_15 (io), F14 IO_L21P_T3_DQS_15 (io), F15 IO_L20N_T3_15 (io), G11 IO_L23P_T3_15 (io), G12 IO_L23N_T3_15 (io), G13 IO_L22P_T3_15 (io), G14 IO_L22N_T3_15 (io), G15 IO_L20P_T3_15 (io), H11 IO_25_15 (io), H12 IO_L24P_T3_RS1_15 (io), H13 IO_L24N_T3_RS0_15 (io)
part E pins: A2 IO_L2N_T0_34 (io), A3 IO_L1N_T0_34 (io), A4 IO_L1P_T0_34 (io), B1 IO_L4N_T0_34 (io), B2 IO_L2P_T0_34 (io), B3 IO_L3N_T0_DQS_34 (io), B4 IO_L3P_T0_DQS_34 (io), B5 IO_L5N_T0_34 (io), C1 IO_L4P_T0_34 (io), C4 IO_L7N_T1_34 (io), C5 IO_L5P_T0_34 (io), D1 IO_L6N_T0_VREF_34 (io), D2 IO_L6P_T0_34 (io), D3 IO_L9N_T1_DQS_34 (io), D4 IO_L7P_T1_34 (io), E1 IO_L8N_T1_34 (io), E2 IO_L8P_T1_34 (io), E3 IO_L9P_T1_DQS_34 (io), F1 IO_L10N_T1_34 (io), F2 IO_L10P_T1_34 (io), F3 IO_L11N_T1_SRCC_34 (io), F4 IO_L11P_T1_SRCC_34 (io), G1 IO_L12N_T1_MRCC_34 (io), G4 IO_0_34 (io), H1 IO_L12P_T1_MRCC_34 (io), H2 IO_L14N_T2_SRCC_34 (io), H3 IO_L13N_T2_MRCC_34 (io), H4 IO_L13P_T2_MRCC_34 (io), J1 IO_L16N_T2_34 (io), J2 IO_L14P_T2_SRCC_34 (io), J3 IO_L15N_T2_DQS_34 (io), J4 IO_L15P_T2_DQS_34 (io), K1 IO_L16P_T2_34 (io), K2 IO_L17N_T2_34 (io), K3 IO_L17P_T2_34 (io), L1 IO_L18N_T2_34 (io), M1 IO_L18P_T2_34 (io), M2 IO_L20N_T3_34 (io), M3 IO_L19N_T3_VREF_34 (io), M4 IO_L19P_T3_34 (io), N1 IO_L22N_T3_34 (io), N2 IO_L20P_T3_34 (io), N3 IO_L21N_T3_DQS_34 (io), N4 IO_25_34 (io), P1 IO_L22P_T3_34 (io), P2 IO_L24N_T3_34 (io), P3 IO_L21P_T3_DQS_34 (io), R2 IO_L24P_T3_34 (io), R3 IO_L23N_T3_34 (io), R4 IO_L23P_T3_34 (io)

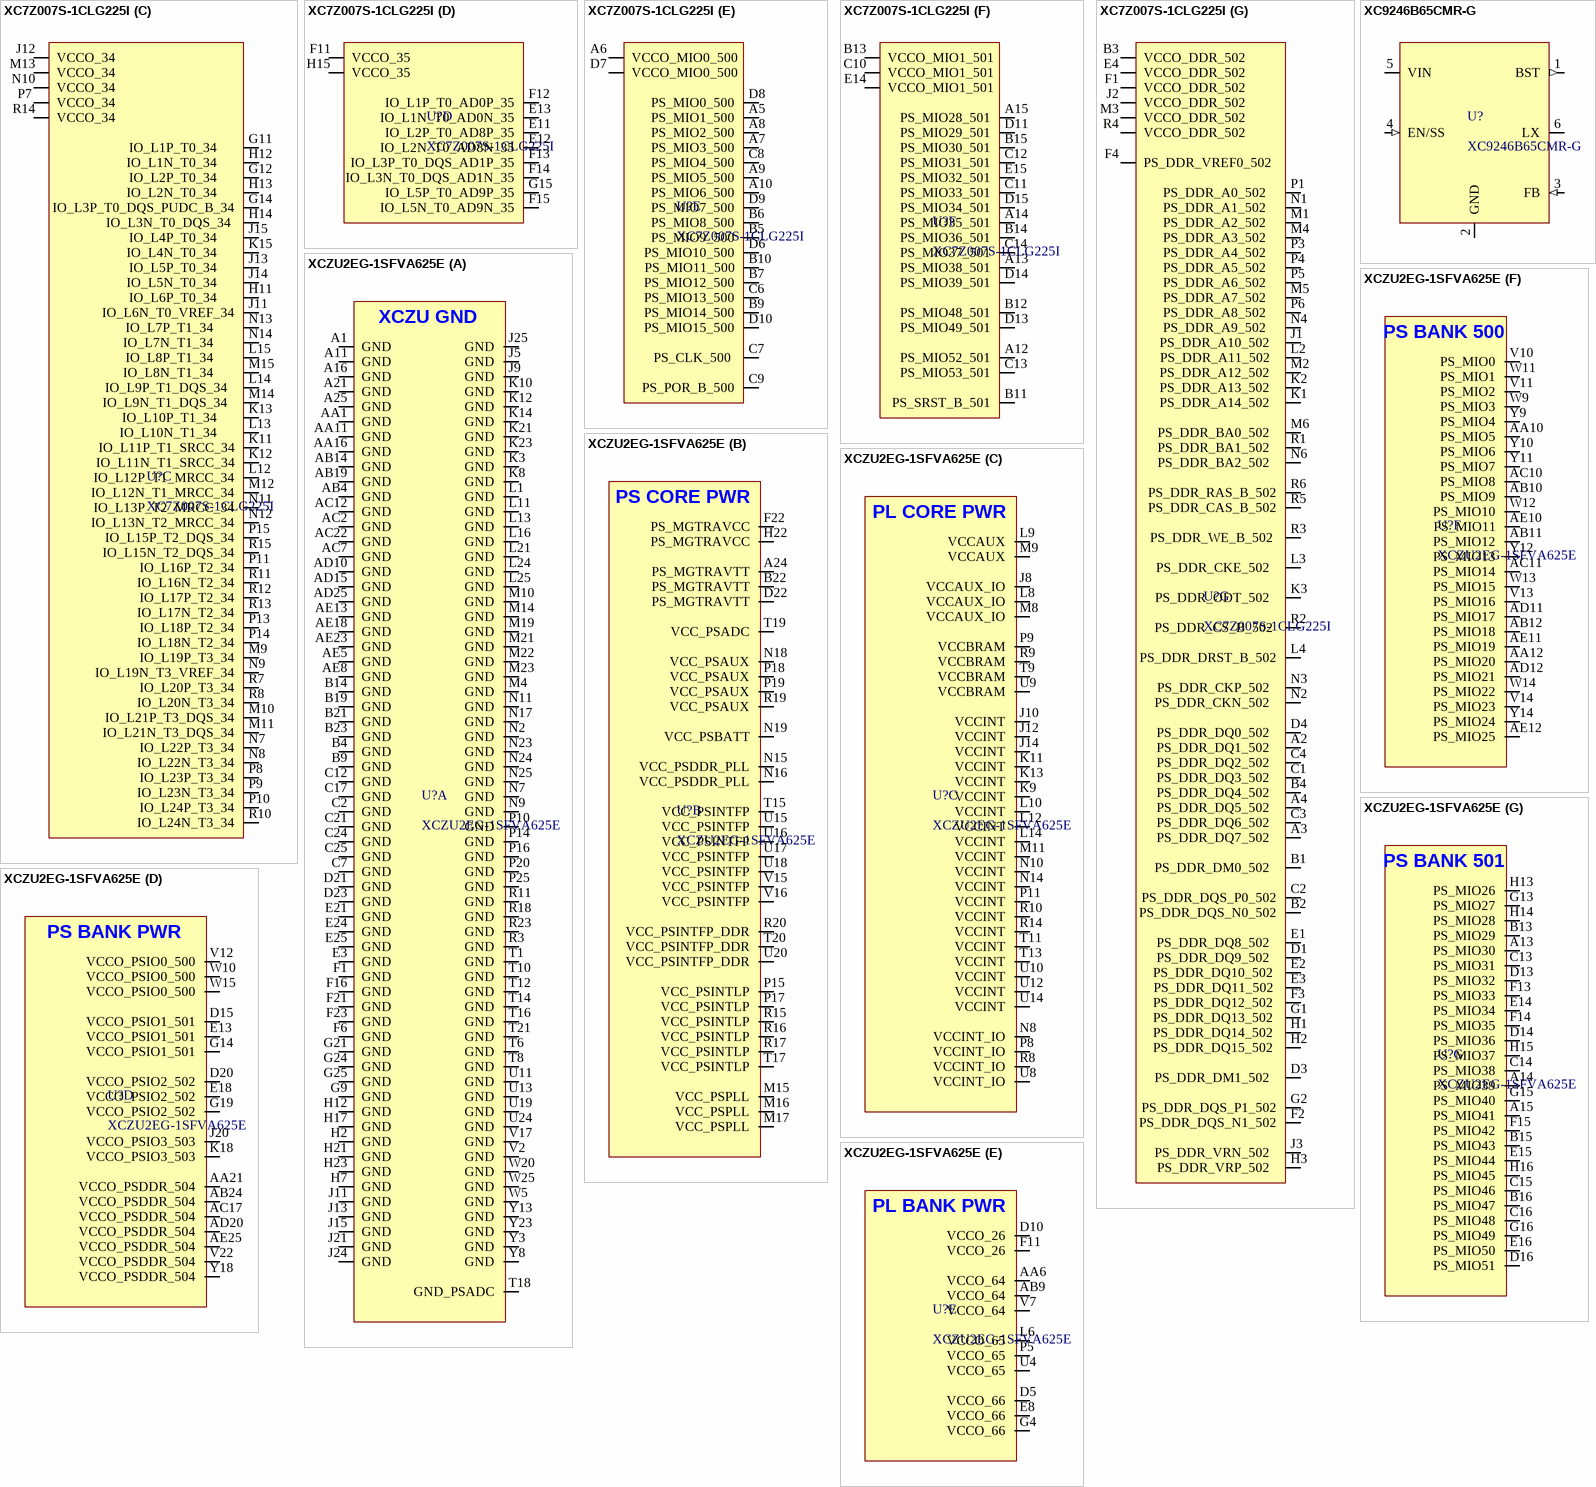
[diagram p27: symbols XC7Z007S-1CLG225I to XCZU2EG-1SFVA625E]